# Altium schematic symbol library OT Library.SchLib: 511 symbols (part 3 of 4)
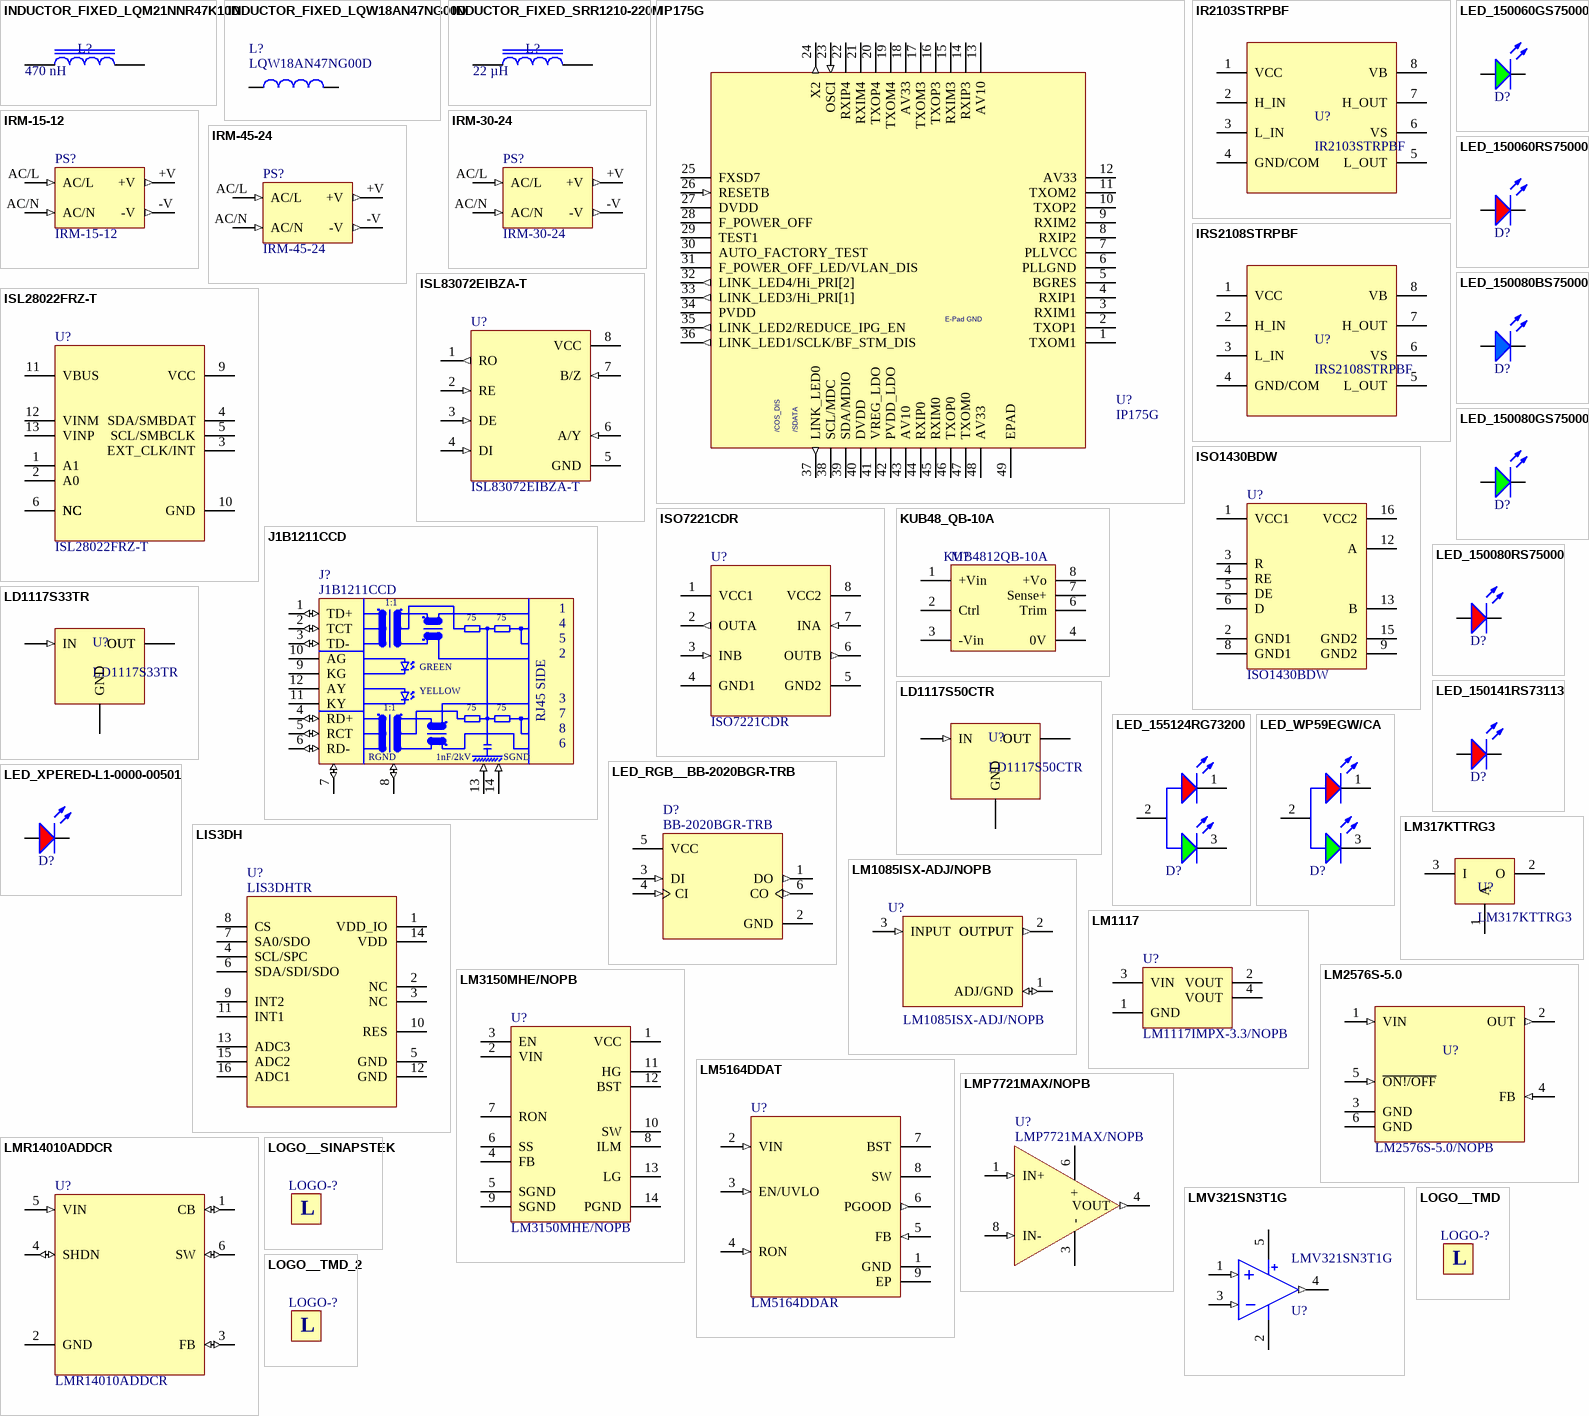
[diagram p19: symbols INDUCTOR_FIXED_LQM21NNR47K10D to LOGO__TMD_2]

## LM1117
designator U?, comment LM1117IMPX-3.3/NOPB
IC REG LIN 3.3V 800MA SOT223-4; Manufacturer: Texas Instruments; Manufacturer Part Number: LM1117IMPX-3.3/NOPB; LCSC Part: C23984
footprint SOT-223-4 (SOT223, 4-Leads, Body 6.50x7.00mm (avg), Pitch 2.30mm)
pins: 1 GND, 2 VOUT, 3 VIN, 4 VOUT

## LM2576S-5.0
designator U?, comment LM2576S-5.0/NOPB
IC REG BUCK 5V 3A TO263-5; Manufacturer: Texas Instruments; Manufacturer Part Number: LM2576S-5.0/NOPB
footprint TO-263-6 (DDPAK/TO-263-5)
pins: 1 VIN (in), 2 OUT (out), 3 GND (power), 4 FB (in), 5 ~{ON!/OFF} (in), 6 GND (power)

## LM3150MHE/NOPB
designator U?
IC REG CTRLR BUCK 14TSSOP; Manufacturer: Texas Instruments; Manufacturer Part Number: LM3150MHE/NOPB; LCSC Part: C2864227
footprint 14-HTSSOP (14-PowerTSSOP (0.173", 4.40mm Width))
pins: 1 VCC, 2 VIN, 3 EN, 4 FB, 5 SGND, 6 SS, 7 RON, 8 ILM, 9 SGND, 10 SW, 11 HG, 12 BST, 13 LG, 14 PGND

## LM5164DDAT
designator U?, comment LM5164DDAR
IC REG BUCK ADJ 1A 8SOPWR; Manufacturer: Texas Instruments; Manufacturer Part Number: LM5164DDAR; LCSC Part: C477928
footprint 8-PowerSOIC (8-SO PowerPad (0.154", 3.90mm Width))
pins: 1 GND (power), 2 VIN (in), 3 EN/UVLO (in), 4 RON (in), 5 FB (in), 6 PGOOD (out), 7 BST (power), 8 SW (power), 9 EP (power)

## LMP7721MAX/NOPB
designator U?
IC OPAMP GP 1 CIRCUIT 8SOIC; Manufacturer: Texas Instruments; Manufacturer Part Number: LMP7721MAX/NOPB; LCSC Part: C2864387
footprint SOIC-8 (0.154", 3.90mm Width)
pins: 1 IN+ (in), 3 - (power), 4 VOUT (out), 6 + (power), 8 IN- (in)

## LMR14010ADDCR
designator U?
IC REG BUCK ADJ 1A TSOT23-6; Manufacturer: Texas Instruments; Manufacturer Part Number: LMR14010ADDCR
footprint TSOT-23-6 (SOT-23-6 Thin, TSOT-23-6)
pins: 1 CB (io), 2 GND (power), 3 FB (io), 4 SHDN (io), 5 VIN (in), 6 SW (io)

## LMV321SN3T1G
designator U?
IC OPAMP GP 1 CIRCUIT 5TSOP; Manufacturer: onsemi; Manufacturer Part Number: LMV321SN3T1G; LCSC Part: C84726
footprint TSOT-23-5 (SOT-23-5 Thin, TSOT-23-5)
pins: 1 IN+ (in), 2 (power), 3 IN- (in), 4 OUT (out), 5 V+ (power)

## LOGO__SINAPSTEK
designator LOGO-?, comment Logo  (value not drawn)  (no BOM)
Value: Logo
footprint Logo-Sinapstek
footprint Logo-Sinapstek_BOTTOM_LAYER
text: L

## LOGO__TMD
designator LOGO-?, comment Logo  (value not drawn)  (no BOM)
Value: Logo
footprint Logo-TMD
text: L

## LOGO__TMD_2
designator LOGO-?, comment Logo  (value not drawn)  (no BOM)
Value: Logo
footprint Logo-TMD2
text: L

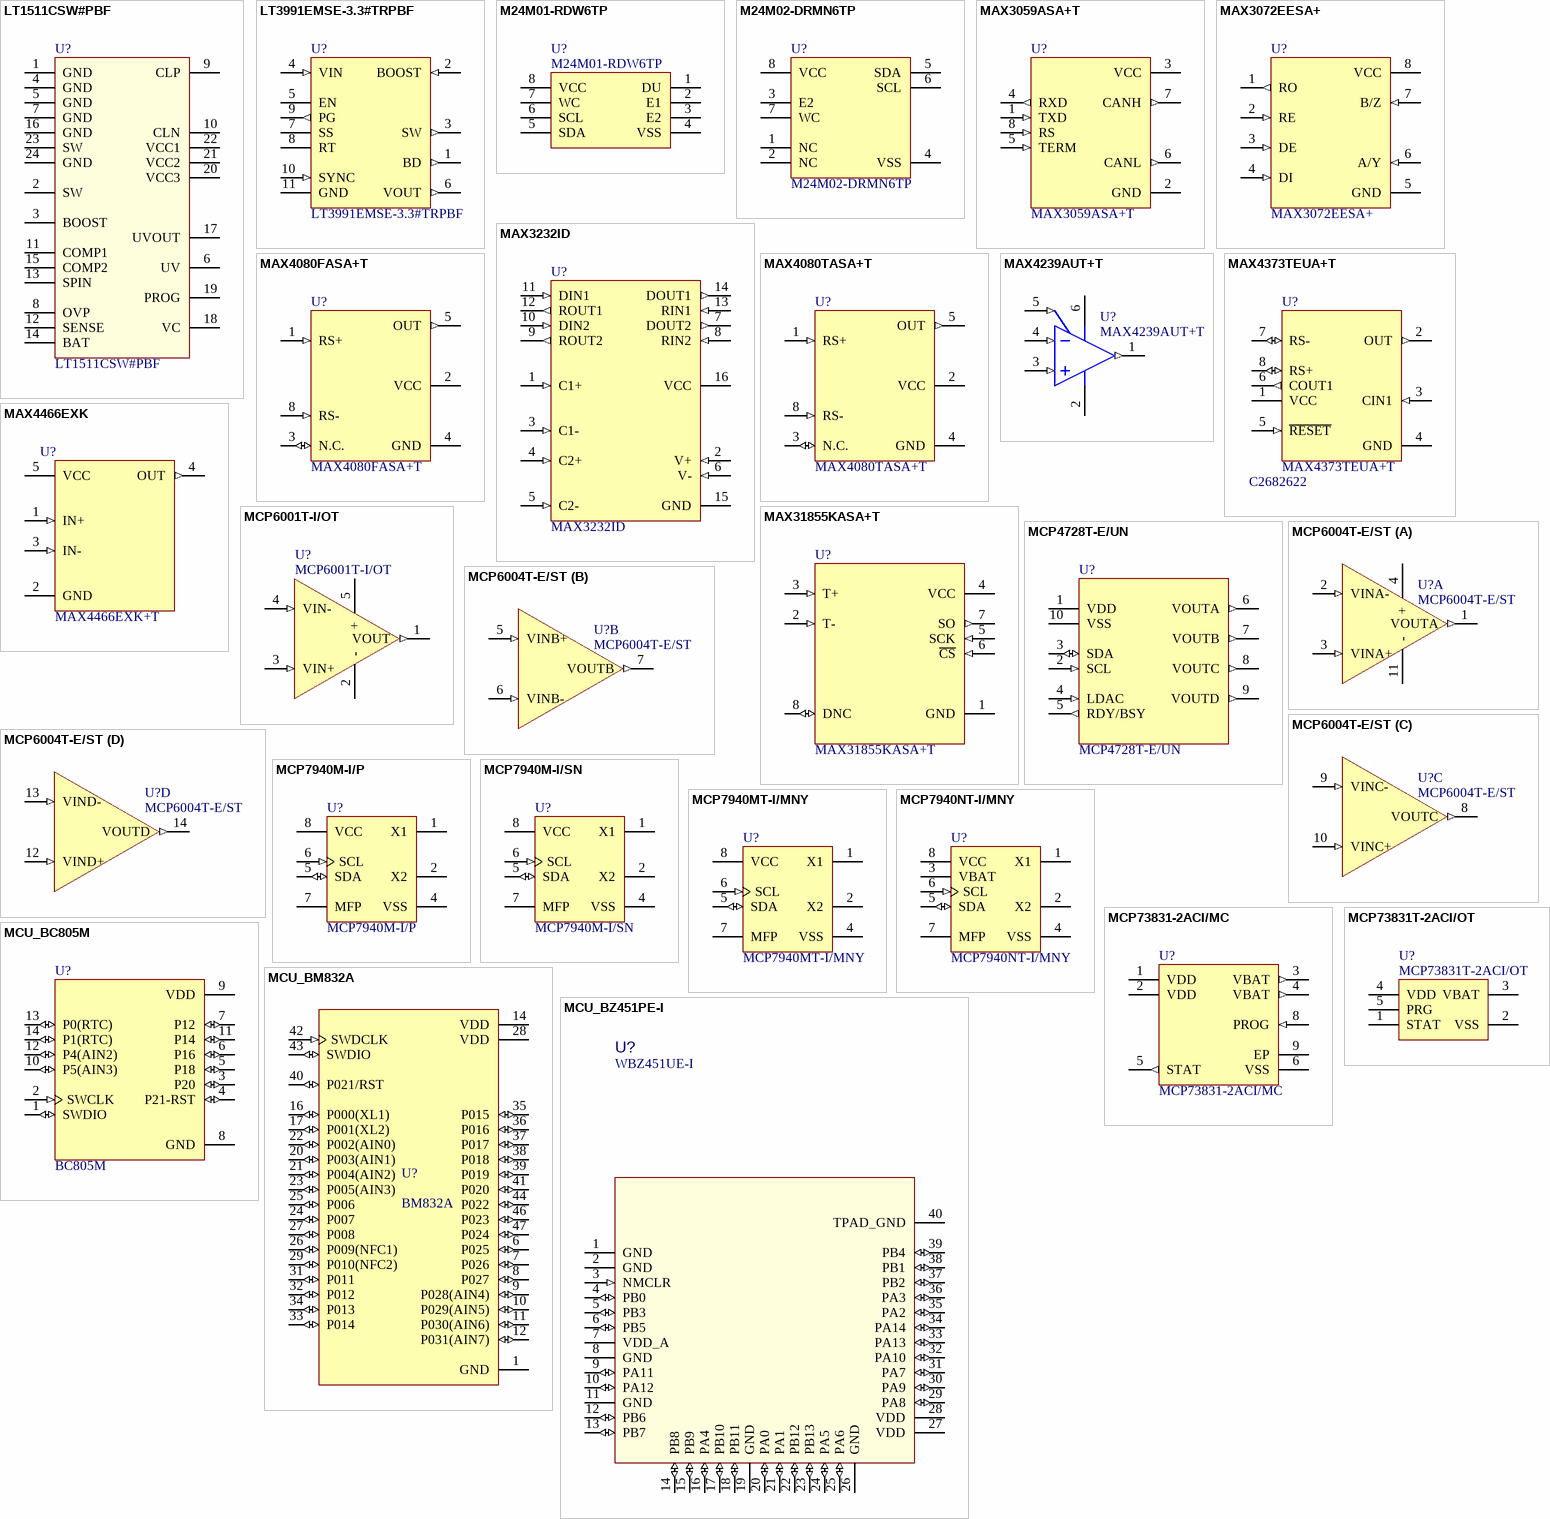
[diagram p8: symbols LT1511CSW#PBF to MCU_BZ451PE-I]

## LT1511CSW#PBF
designator U?
IC BATT CHG MULTI-CHEM 24SOIC; Manufacturer: Analog Devices Inc.; Manufacturer Part Number: LT1511CSW#PBF
footprint 24-SOIC (24-SOIC (0.295", 7.50mm Width))
pins: 1 GND, 2 SW, 3 BOOST, 4 GND, 5 GND, 6 UV, 7 GND, 8 OVP, 9 CLP, 10 CLN, 11 COMP1, 12 SENSE, 13 SPIN, 14 BAT, 15 COMP2, 16 GND, 17 UVOUT, 18 VC, 19 PROG, 20 VCC3, 21 VCC2, 22 VCC1, 23 SW, 24 GND

## LT3991EMSE-3.3#TRPBF
designator U?
IC REG BUCK 3.3V 1.2A 10MSOP; Manufacturer: Analog Devices Inc.; Manufacturer Part Number: LT3991EMSE-3.3#TRPBF; Datasheet: https://www.analog.com/media/en/technical-documentation/data-sheets/3991fa.pdf
footprint MSOP-10-EP (10-TFSOP, 10-MSOP (0.118", 3.00mm Width) Exposed Pad)
pins: 1 BD (out), 2 BOOST (in), 3 SW (out), 4 VIN (in), 5 EN, 6 VOUT (out), 7 SS, 8 RT, 9 PG (out), 10 SYNC (in), 11 GND

## M24M01-RDW6TP
designator U?
IC EEPROM 1MBIT I2C 1MHZ 8TSSOP; Manufacturer: STMicroelectronics; LCSC Part: C283500; Manufacturer Part Number: M24M01-RDW6TP; ComponentLink1URL: https://datasheet.ciiva.com/15123/getdatasheetpartid-572481-15123825.pdf?src-supplier=Verical; ComponentLink1Description: https://datasheet.ciiva.com/15123/getdatasheetpartid-572481-15123825.pdf?src-supplier=Verical; ComponentLink2URL: https://datasheet.ciiva.com/29611/cd00147128-29611846.pdf?src-supplier=Digikey; ComponentLink2Description: https://datasheet.ciiva.com/29611/cd00147128-29611846.pdf?src-supplier=Digikey
footprint 8-TSSOP_4.40MM (8-TSSOP (0.173", 4.40mm Width))
pins: 1 DU, 2 E1, 3 E2, 4 VSS, 5 SDA, 6 SCL, 7 WC, 8 VCC

## M24M02-DRMN6TP
designator U?
IC EEPROM 2MBIT I2C 1MHZ 8SOIC; Manufacturer: STMicroelectronics; Manufacturer Part Number: M24M02-DRMN6TP; LCSC Part: C115042
footprint SOIC-8 (0.154", 3.90mm Width)
pins: 1 NC, 2 NC, 3 E2, 4 VSS, 5 SDA, 6 SCL, 7 WC, 8 VCC

## MAX3059ASA+T
designator U?
1/1 Transceiver Full CANbus 8-SOIC; Manufacturer: Maxim Integrated; Manufacturer Part Number: MAX3059ASA+T; Datasheet: https://www.analog.com/media/en/technical-documentation/data-sheets/MAX3058-MAX3059.pdf
footprint SOIC-8 (0.154", 3.90mm Width)
pins: 1 TXD (in), 2 GND (power), 3 VCC (power), 4 RXD (out), 5 TERM (in), 6 CANL (out), 7 CANH (out), 8 RS (in)

## MAX3072EESA+
designator U?
IC TRANSCEIVER HALF 1/1 8SOIC; Manufacturer: Analog Devices Inc./Maxim Integrated; Manufacturer Part Number: MAX3072EESA+; Datasheet: https://datasheets.maximintegrated.com/en/ds/MAX3070E-MAX3079E.pdf; LCSC Part: C113252
footprint SOIC-8 (0.154", 3.90mm Width)
pins: 1 RO (out), 2 RE (in), 3 DE (in), 4 DI (in), 5 GND (power), 6 A/Y (in), 7 B/Z (in), 8 VCC (power)

## MAX3232ID
designator U?
IC TRANSCEIVER FULL 2/2 16SOIC; Manufacturer: Texas Instruments; Manufacturer Part Number: MAX3232ID; LCSC Part: C354119
footprint SOIC-16 ((0.295", 7.50mm Width))
pins: 1 C1+ (in), 2 V+ (in), 3 C1- (in), 4 C2+ (in), 5 C2- (in), 6 V- (in), 7 DOUT2 (out), 8 RIN2 (in), 9 ROUT2 (out), 10 DIN2 (in), 11 DIN1 (in), 12 ROUT1 (out), 13 RIN1 (in), 14 DOUT1 (out), 15 GND (power), 16 VCC (power)

## MAX4080FASA+T
designator U?
IC CURRENT SENSE 1 CIRCUIT 8SOIC; Manufacturer: Analog Devices Inc./Maxim Integrated; Manufacturer Part Number: MAX4080FASA+T
footprint SOIC-8 (0.154", 3.90mm Width)
pins: 1 RS+ (in), 2 VCC (power), 3 N.C. (io), 4 GND (power), 5 OUT (out), 6 N.C. (io) hidden to 3, 7 N.C. (io) hidden to 3, 8 RS- (in)

## MAX4080TASA+T
designator U?
IC CURRENT SENSE 1 CIRCUIT 8SOIC; Manufacturer: Analog Devices Inc./Maxim Integrated; Manufacturer Part Number: MAX4080TASA+T
footprint SOIC-8 (0.154", 3.90mm Width)
pins: 1 RS+ (in), 2 VCC (power), 3 N.C. (io), 4 GND (power), 5 OUT (out), 6 N.C. (io) hidden to 3, 7 N.C. (io) hidden to 3, 8 RS- (in)

## MAX4239AUT+T
designator U?
IC OPAMP GP 1 CIRCUIT SOT6; Manufacturer: Analog Devices Inc./Maxim Integrated; Manufacturer Part Number: MAX4239AUT+T; LCSC Part: C479740
footprint SOT-23-6
pins: 1 VOUT (out), 2 VSS (power), 3 VIN+ (in), 4 VIN- (in), 5 ~{CS} (in), 6 VDD (power)

## MAX4373TEUA+T
designator U?  LCSC Part: C2682622
IC AMP COMP REF 8UMAX; Manufacturer: Analog Devices Inc./Maxim Integrated; Manufacturer Part Number: MAX4373TEUA+T
footprint 8-TSSOP_3.00MM (8-MSOP (0.118", 3.00mm Width))
pins: 1 VCC (power), 2 OUT (out), 3 CIN1 (in), 4 GND (power), 5 ~{RESET} (in), 6 COUT1 (out), 7 RS- (io), 8 RS+ (io)

## MAX4466EXK
designator U?, comment MAX4466EXK+T
IC AMP CLASS AB MONO SC70-5; Manufacturer: Analog Devices; Manufacturer Part Number: MAX4466EXK+T; LCSC Part: C7456762
footprint SC-70-5
pins: 1 IN+ (in), 2 GND (power), 3 IN- (in), 4 OUT (out), 5 VCC (power)

## MAX31855KASA+T
designator U?
IC CONV THERMOCOUPLE-DGTL SOIC; Manufacturer: Analog Devices Inc./Maxim Integrated; Manufacturer Part Number: MAX31855KASA+T; LCSC Part: C52028
footprint SOIC-8 (0.154", 3.90mm Width)
pins: 1 GND (power), 2 T- (in), 3 T+ (in), 4 VCC (power), 5 SCK (in), 6 ~{CS} (in), 7 SO (out), 8 DNC (io)

## MCP4728T-E/UN
designator U?
IC DAC 12BIT V-OUT 10MSOP; Manufacturer: Microchip; Manufacturer Part Number: MCP4728T-E/UN; LCSC Part: C478093
footprint 10-MSOP (10-TFSOP, 10-MSOP (0.118", 3.00mm Width))
pins: 1 VDD (power), 2 SCL (in), 3 SDA (io), 4 LDAC (in), 5 RDY/BSY (out), 6 VOUTA (out), 7 VOUTB (out), 8 VOUTC (out), 9 VOUTD (out), 10 VSS (power)

## MCP6001T-I/OT
designator U?
IC OPAMP GP 1 CIRCUIT SOT23-5; Manufacturer: Microchip Technology; Manufacturer Part Number: MCP6001T-I/OT; LCSC Part: C116490
footprint SOT-23-5 (SC-74A, SOT-753)
pins: 1 VOUT (out), 2 - (power), 3 VIN+ (in), 4 VIN- (in), 5 + (power)

## MCP6004T-E/ST
designator U?
IC OPAMP GP 4 CIRCUIT 14TSSOP; Manufacturer: Microchip; Manufacturer Part Number: MCP6004T-E/ST
footprint 14-TSSOP (14-TSSOP (0.173", 4.40mm Width))
part A pins: 1 VOUTA (out), 2 VINA- (in), 3 VINA+ (in), 4 + (power), 11 -
part B pins: 5 VINB+ (in), 6 VINB- (in), 7 VOUTB (out)
part C pins: 8 VOUTC (out), 9 VINC- (in), 10 VINC+ (in)
part D pins: 12 VIND+ (in), 13 VIND- (in), 14 VOUTD (out)

## MCP7940M-I/P
designator U?
IC RTC CLOCK/CALENDAR I2C 8DIP; Manufacturer: Microchip Technology; Manufacturer Part Number: MCP7940M-I/P
footprint 8-DIP (8-DIP (0.300", 7.62mm))
pins: 1 X1, 2 X2, 3 NC hidden, 4 VSS (power), 5 SDA (io), 6 SCL (in), 7 MFP, 8 VCC (power)

## MCP7940M-I/SN
designator U?
IC RTC CLK/CALENDAR I2C 8SOIC; Manufacturer: Microchip Technology; Manufacturer Part Number: MCP7940M-I/SN
footprint SOIC-8 (0.154", 3.90mm Width)
pins: 1 X1, 2 X2, 3 NC hidden, 4 VSS (power), 5 SDA (io), 6 SCL (in), 7 MFP, 8 VCC (power)

## MCP7940MT-I/MNY
designator U?
IC RTC CLK/CALENDAR I2C 8TDFN; Manufacturer: Microchip Technology; Manufacturer Part Number: MCP7940MT-I/MNY
footprint 8-WFDFN (2x3) Exposed Pad
pins: 1 X1, 2 X2, 3 NC hidden, 4 VSS (power), 5 SDA (io), 6 SCL (in), 7 MFP, 8 VCC (power)

## MCP7940NT-I/MNY
designator U?
IC RTC CLK/CALENDAR I2C 8TDFN; Manufacturer: Microchip Technology; Manufacturer Part Number: MCP7940NT-I/MNY
footprint 8-WFDFN (2x3) Exposed Pad
pins: 1 X1, 2 X2, 3 VBAT, 4 VSS (power), 5 SDA (io), 6 SCL (in), 7 MFP, 8 VCC (power)

## MCP73831-2ACI/MC
designator U?
IC BATT CONTRL LI-ION 1CELL 8DFN; Manufacturer: Microchip; Manufacturer Part Number: MCP73831-2ACI/MC; LCSC Part: C150772
footprint 8-VFDFN Exposed Pad (8-DFN (2x3))
pins: 1 VDD (power), 2 VDD (power), 3 VBAT (out), 4 VBAT (out), 5 STAT (out), 6 VSS (power), 8 PROG (in), 9 EP (power)

## MCP73831T-2ACI/OT
designator U?
IC BATT CNTL LI-ION 1CEL SOT23-5; Manufacturer: Microchip; Manufacturer Part Number: MCP73831T-2ACI/OT; LCSC Part: C424093
footprint SOT-23-5 (SC-74A, SOT-753)
pins: 1 STAT, 2 VSS, 3 VBAT, 4 VDD, 5 PRG

## MCU_BC805M
designator U?, comment BC805M
RF TXRX MODULE BT PCB TRACE SMD; Manufacturer: Fanstel Corp.; Manufacturer Prart Number: BC805M
footprint XCVR_BC805M
pins: 1 SWDIO (io), 2 SWCLK (in), 3 P20 (io), 4 P21-RST (io), 5 P18 (io), 6 P16 (io), 7 P12 (io), 8 GND (power), 9 VDD (power), 10 P5(AIN3) (io), 11 P14 (io), 12 P4(AIN2) (io), 13 P0(RTC) (io), 14 P1(RTC) (io)

## MCU_BM832A
designator U?, comment BM832A
RF TXRX MODULE BT PCB TRACE SMD; Manufacturer: Fanstel; Manufacturer Part Number: BM832A
footprint XCVR_BM832A
pins: 1 GND (power), 2 GND (power), 3 GND (power), 4 GND (power), 5 GND (power), 6 P025 (io), 7 P026 (io), 8 P027 (io), 9 P028(AIN4) (io), 10 P029(AIN5) (io), 11 P030(AIN6) (io), 12 P031(AIN7) (io), 13 GND (power), 14 VDD (power), 15 GND (power), 16 P000(XL1) (io), 17 P001(XL2) (io), 18 GND (power), 19 GND (power), 20 P003(AIN1) (io), 21 P004(AIN2) (io), 22 P002(AIN0) (io), 23 P005(AIN3) (io), 24 P007 (io), 25 P006 (io), 26 P009(NFC1) (io), 27 P008 (io), 28 VDD (power), 29 P010(NFC2) (io), 30 GND (power), 31 P011 (io), 32 P012 (io), 33 P014 (io), 34 P013 (io), 35 P015 (io), 36 P016 (io), 37 P017 (io), 38 P018 (io), 39 P019 (io), 40 P021/RST (io), 41 P020 (io), 42 SWDCLK (in), 43 SWDIO (io), 44 P022 (io), 45 GND (power), 46 P023 (io), 47 P024 (io)

## MCU_BZ451PE-I
designator U?, comment WBZ451UE-I
RF TXRX MODULE BT U.FL SMD; Manufacturer: Microchip Technology; Revision: 2; Manufacturer Part Number: WBZ451UE-I; LCSC Part: C6000625
footprint MOD_WBZ451PE-I
pins: 1 GND (power), 2 GND (power), 3 NMCLR (in), 4 PB0 (io), 5 PB3 (io), 6 PB5 (io), 7 VDD_A (power), 8 GND (power), 9 PA11 (io), 10 PA12 (io), 11 GND (power), 12 PB6 (io), 13 PB7 (io), 14 PB8 (io), 15 PB9 (io), 16 PA4 (io), 17 PB10 (io), 18 PB11 (io), 19 GND (power), 20 PA0 (io), 21 PA1 (io), 22 PB12 (io), 23 PB13 (io), 24 PA5 (io), 25 PA6 (io), 26 GND (power), 27 VDD (power), 28 VDD (power), 29 PA8 (io), 30 PA9 (io), 31 PA7 (io), 32 PA10 (io), 33 PA13 (io), 34 PA14 (io), 35 PA2 (io), 36 PA3 (io), 37 PB2 (io), 38 PB1 (io), 39 PB4 (io), 40 TPAD_GND

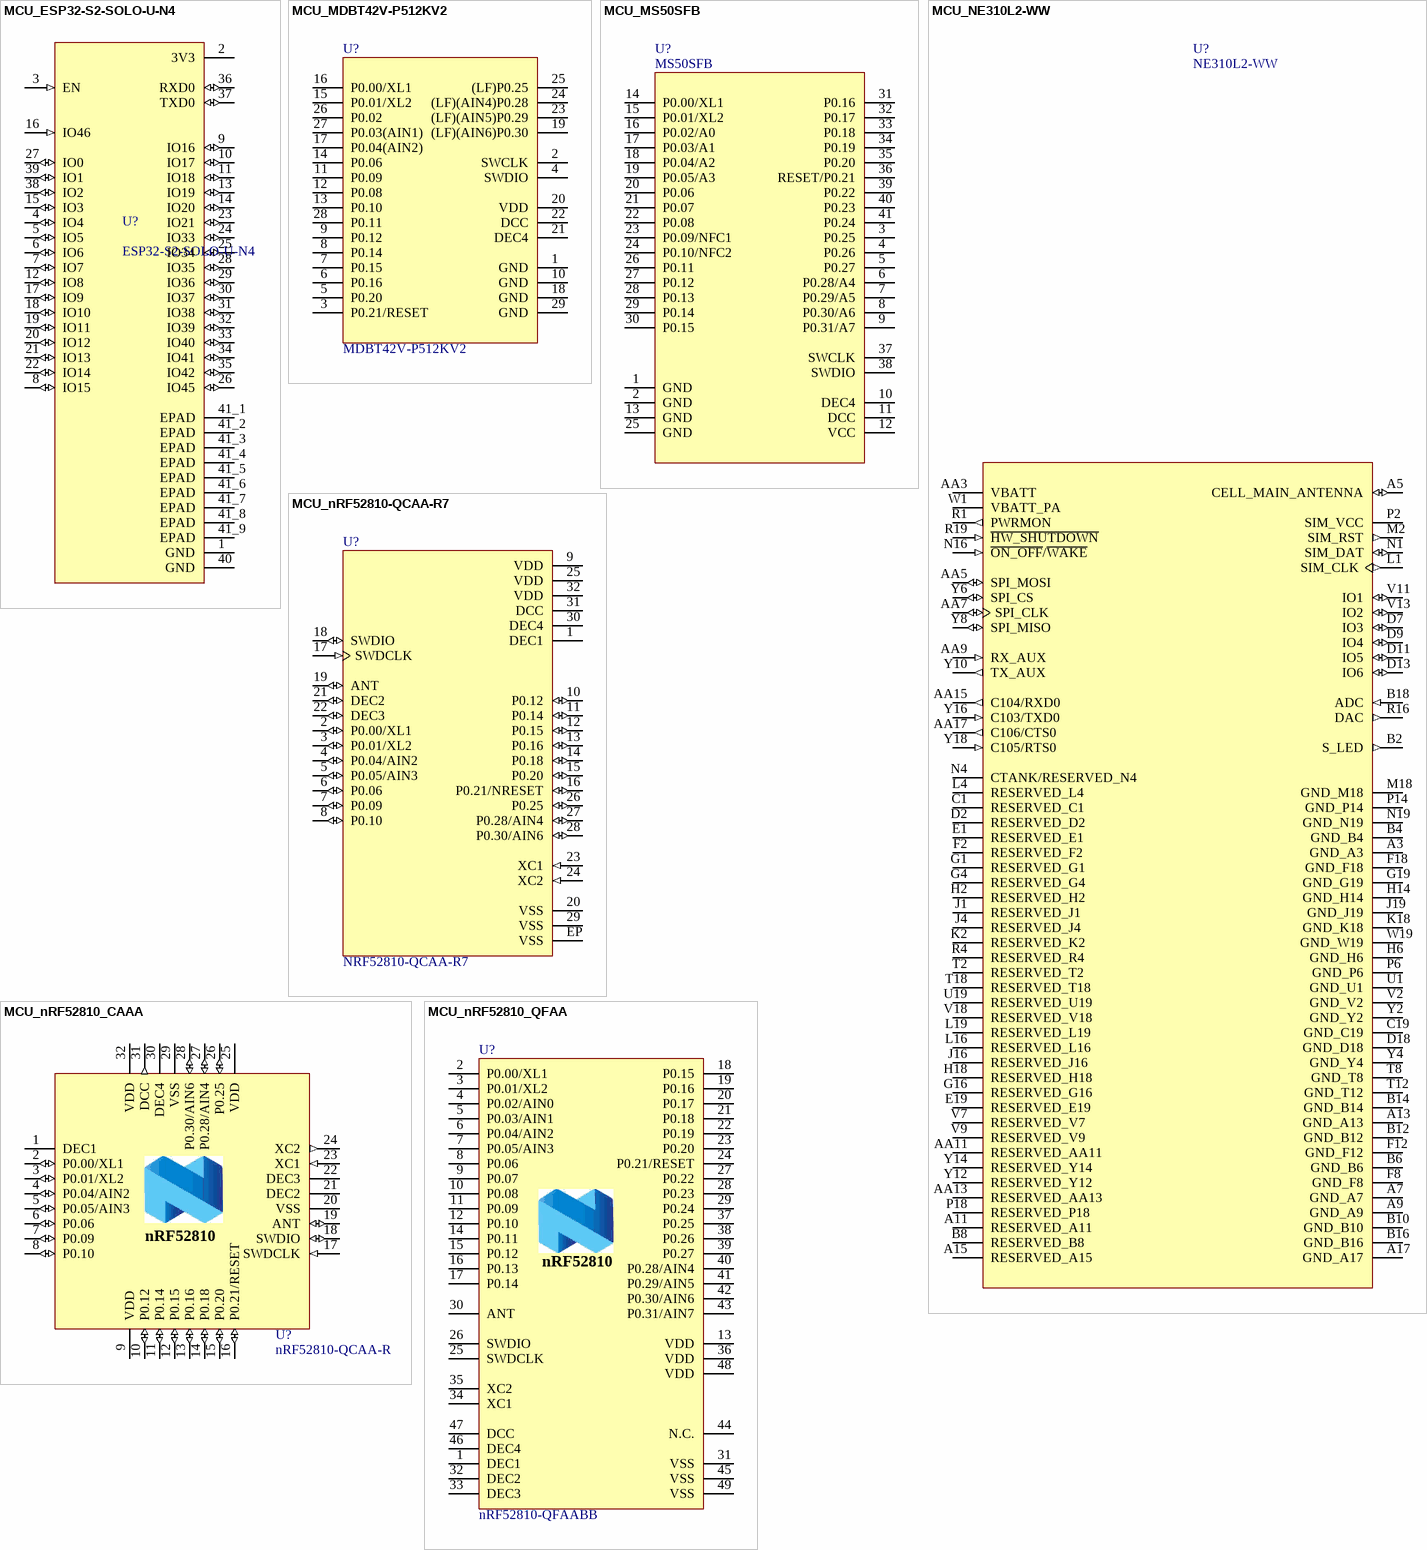
[diagram p9: symbols MCU_ESP32-S2-SOLO-U-N4 to MCU_nRF52810_QFAA]

## MCU_ESP32-S2-SOLO-U-N4
designator U?, comment ESP32-S2-SOLO-U-N4
SMD MODULE, ESP32-S2, 4 MB SPI F; Manufacturer: Espressif Systems; Datasheet: https://www.espressif.com/sites/default/files/documentation/esp32-s2-solo-2_esp32-s2-solo-2u_datasheet_en.pdf; Manufacturer Part Number: ESP32-S2-SOLO-U-N4
footprint MCU_ESP32-S2-SOLO-U-N4 (Footprint not found)
pins: 1 GND (power), 2 3V3 (power), 3 EN (in), 4 IO4 (io), 5 IO5 (io), 6 IO6 (io), 7 IO7 (io), 8 IO15 (io), 9 IO16 (io), 10 IO17 (io), 11 IO18 (io), 12 IO8 (io), 13 IO19 (io), 14 IO20 (io), 15 IO3 (io), 16 IO46 (in), 17 IO9 (io), 18 IO10 (io), 19 IO11 (io), 20 IO12 (io), 21 IO13 (io), 22 IO14 (io), 23 IO21 (io), 24 IO33 (io), 25 IO34 (io), 26 IO45 (io), 27 IO0 (io), 28 IO35 (io), 29 IO36 (io), 30 IO37 (io), 31 IO38 (io), 32 IO39 (io), 33 IO40 (io), 34 IO41 (io), 35 IO42 (io), 36 RXD0 (io), 37 TXD0 (io), 38 IO2 (io), 39 IO1 (io), 40 GND (power), 41_1 EPAD (power), 41_2 EPAD (power), 41_3 EPAD (power), 41_4 EPAD (power), 41_5 EPAD (power), 41_6 EPAD (power), 41_7 EPAD (power), 41_8 EPAD (power), 41_9 EPAD (power)

## MCU_MDBT42V-P512KV2
designator U?, comment MDBT42V-P512KV2
RF TXRX MOD BT PCB TH SMD; Manufacturer: RAYTEC; Manufacturer Part Number: MDBT42V-P512KV2; LCSC Part: C5299725
footprint MDBT42V (Footprint not found)
pins: 1 GND, 2 SWCLK, 3 P0.21/RESET, 4 SWDIO, 5 P0.20, 6 P0.16, 7 P0.15, 8 P0.14, 9 P0.12, 10 GND, 11 P0.09, 12 P0.08, 13 P0.10, 14 P0.06, 15 P0.01/XL2, 16 P0.00/XL1, 17 P0.04(AIN2), 18 GND, 19 (LF)(AIN6)P0.30, 20 VDD, 21 DEC4, 22 DCC, 23 (LF)(AIN5)P0.29, 24 (LF)(AIN4)P0.28, 25 (LF)P0.25, 26 P0.02, 27 P0.03(AIN1), 28 P0.11, 29 GND

## MCU_MS50SFB
designator U?, comment MS50SFB
Bluetooth 5.0 module; Manufacturer: MINEV; Manufacturer Part Number: MS50SFB
footprint MS50SFB (Respect stay away lines if not model 3)
pins: 1 GND, 2 GND, 3 P0.25, 4 P0.26, 5 P0.27, 6 P0.28/A4, 7 P0.29/A5, 8 P0.30/A6, 9 P0.31/A7, 10 DEC4, 11 DCC, 12 VCC, 13 GND, 14 P0.00/XL1, 15 P0.01/XL2, 16 P0.02/A0, 17 P0.03/A1, 18 P0.04/A2, 19 P0.05/A3, 20 P0.06, 21 P0.07, 22 P0.08, 23 P0.09/NFC1, 24 P0.10/NFC2, 25 GND, 26 P0.11, 27 P0.12, 28 P0.13, 29 P0.14, 30 P0.15, 31 P0.16, 32 P0.17, 33 P0.18, 34 P0.19, 35 P0.20, 36 RESET/P0.21, 37 SWCLK, 38 SWDIO, 39 P0.22, 40 P0.23, 41 P0.24

## MCU_NE310L2-WW
designator U?, comment NE310L2-WW
NB-IoT 2G module Global variant; Manufacturer: Telit; Manufacturer Part Number: NE310L2-WW
footprint XCVR_NE310L2-WW
pins: A3 GND_A3 (power), A5 CELL_MAIN_ANTENNA (io), A7 GND_A7 (power), A9 GND_A9 (power), A11 RESERVED_A11, A13 GND_A13 (power), A15 RESERVED_A15, A17 GND_A17 (power), AA3 VBATT (power), AA5 SPI_MOSI (io), AA7 SPI_CLK (io), AA9 RX_AUX (in), AA11 RESERVED_AA11, AA13 RESERVED_AA13, AA15 C104/RXD0 (out), AA17 C106/CTS0 (out), B2 S_LED (out), B4 GND_B4 (power), B6 GND_B6 (power), B8 RESERVED_B8, B10 GND_B10 (power), B12 GND_B12 (power), B14 GND_B14 (power), B16 GND_B16 (power), B18 ADC (in), C1 RESERVED_C1, C19 GND_C19 (power), D2 RESERVED_D2, D7 IO3 (io), D9 IO4 (io), D11 IO5 (io), D13 IO6 (io), D18 GND_D18 (power), E1 RESERVED_E1, E19 RESERVED_E19, F2 RESERVED_F2, F8 GND_F8 (power), F12 GND_F12 (power), F18 GND_F18 (power), G1 RESERVED_G1, G4 RESERVED_G4, G16 RESERVED_G16, G19 GND_G19 (power), H2 RESERVED_H2, H6 GND_H6 (power), H14 GND_H14 (power), H18 RESERVED_H18, J1 RESERVED_J1, J4 RESERVED_J4, J16 RESERVED_J16, J19 GND_J19 (power), K2 RESERVED_K2, K18 GND_K18 (power), L1 SIM_CLK (out), L4 RESERVED_L4, L16 RESERVED_L16, L19 RESERVED_L19, M2 SIM_RST (out), M18 GND_M18 (power), N1 SIM_DAT (io), N4 CTANK/RESERVED_N4, N16 ~{ON_OFF}/~{WAKE} (in), N19 GND_N19 (power), P2 SIM_VCC (power), P6 GND_P6 (power), P14 GND_P14 (power), P18 RESERVED_P18, R1 PWRMON (out), R4 RESERVED_R4, R16 DAC (out), R19 ~{HW_SHUTDOWN} (in), T2 RESERVED_T2, T8 GND_T8 (power), T12 GND_T12 (power), T18 RESERVED_T18, U1 GND_U1 (power), U19 RESERVED_U19, V2 GND_V2 (power), V7 RESERVED_V7, V9 RESERVED_V9, V11 IO1 (io), V13 IO2 (io), V18 RESERVED_V18, W1 VBATT_PA (power), W19 GND_W19 (power), Y2 GND_Y2 (power), Y4 GND_Y4 (power), Y6 SPI_CS (io), Y8 SPI_MISO (io), Y10 TX_AUX (out), Y12 RESERVED_Y12, Y14 RESERVED_Y14, Y16 C103/TXD0 (in), Y18 C105/RTS0 (in)

## MCU_nRF52810-QCAA-R7
designator U?, comment NRF52810-QCAA-R7
IC RF TXRX+MCU BLUETOOTH 32WFQFN; Manufacturer: Nordic Semiconductor ASA; Manufacturer Part Number: NRF52810-QCAA-R7; LCSC Part: C519278
footprint 32-QFN (5x5) (32-VFQFN Exposed Pad)
pins: 1 DEC1 (power), 2 P0.00/XL1 (io), 3 P0.01/XL2 (io), 4 P0.04/AIN2 (io), 5 P0.05/AIN3 (io), 6 P0.06 (io), 7 P0.09 (io), 8 P0.10 (io), 9 VDD (power), 10 P0.12 (io), 11 P0.14 (io), 12 P0.15 (io), 13 P0.16 (io), 14 P0.18 (io), 15 P0.20 (io), 16 P0.21/NRESET (io), 17 SWDCLK (in), 18 SWDIO (io), 19 ANT (io), 20 VSS (power), 21 DEC2 (io), 22 DEC3 (io), 23 XC1 (in), 24 XC2 (in), 25 VDD (power), 26 P0.25 (io), 27 P0.28/AIN4 (io), 28 P0.30/AIN6 (io), 29 VSS (power), 30 DEC4 (power), 31 DCC (power), 32 VDD (power), EP VSS (power)

## MCU_nRF52810_CAAA
designator U?, comment nRF52810-QCAA-R
IC RF TXRX+MCU BLUETOOTH 32WFQFN; Manufacturer: Nordic Semiconductor; LCSC Part: C519278; Manufacturer Part Number: nRF52810-QCAA-R
footprint 32-VFQFN Exposed Pad (32-HVQFN (5x5))
pins: 1 DEC1 (power), 2 P0.00/XL1 (io), 3 P0.01/XL2 (io), 4 P0.04/AIN2 (io), 5 P0.05/AIN3 (io), 6 P0.06 (io), 7 P0.09 (io), 8 P0.10 (io), 9 VDD (power), 10 P0.12 (io), 11 P0.14 (io), 12 P0.15 (io), 13 P0.16 (io), 14 P0.18 (io), 15 P0.20 (io), 16 P0.21/RESET (io), 17 SWDCLK (in), 18 SWDIO (io), 19 ANT (io), 20 VSS (power), 21 DEC2 (power), 22 DEC3 (power), 23 XC1 (in), 24 XC2 (out), 25 VDD (power), 26 P0.25 (io), 27 P0.28/AIN4 (io), 28 P0.30/AIN6 (io), 29 VSS (power), 30 DEC4 (power), 31 DCC (out), 32 VDD (power)
text: nRF52810

## MCU_nRF52810_QFAA
designator U?, comment nRF52810-QFAABB
IC RF TXRX+MCU BLUETOOTH 48VFQFN; Manufacturer: Nordic Semiconductor; Manufacturer Part Number: nRF52810-QFAABB; LCSC Part: C141828
footprint 48-QFN-EPAD (QFN 48-Leads, Body 6x6mm, Pitch 0.40mm)
pins: 1 DEC1, 2 P0.00/XL1, 3 P0.01/XL2, 4 P0.02/AIN0, 5 P0.03/AIN1, 6 P0.04/AIN2, 7 P0.05/AIN3, 8 P0.06, 9 P0.07, 10 P0.08, 11 P0.09, 12 P0.10, 13 VDD, 14 P0.11, 15 P0.12, 16 P0.13, 17 P0.14, 18 P0.15, 19 P0.16, 20 P0.17, 21 P0.18, 22 P0.19, 23 P0.20, 24 P0.21/RESET, 25 SWDCLK, 26 SWDIO, 27 P0.22, 28 P0.23, 29 P0.24, 30 ANT, 31 VSS, 32 DEC2, 33 DEC3, 34 XC1, 35 XC2, 36 VDD, 37 P0.25, 38 P0.26, 39 P0.27, 40 P0.28/AIN4, 41 P0.29/AIN5, 42 P0.30/AIN6, 43 P0.31/AIN7, 44 N.C., 45 VSS, 46 DEC4, 47 DCC, 48 VDD, 49 VSS
text: nRF52810

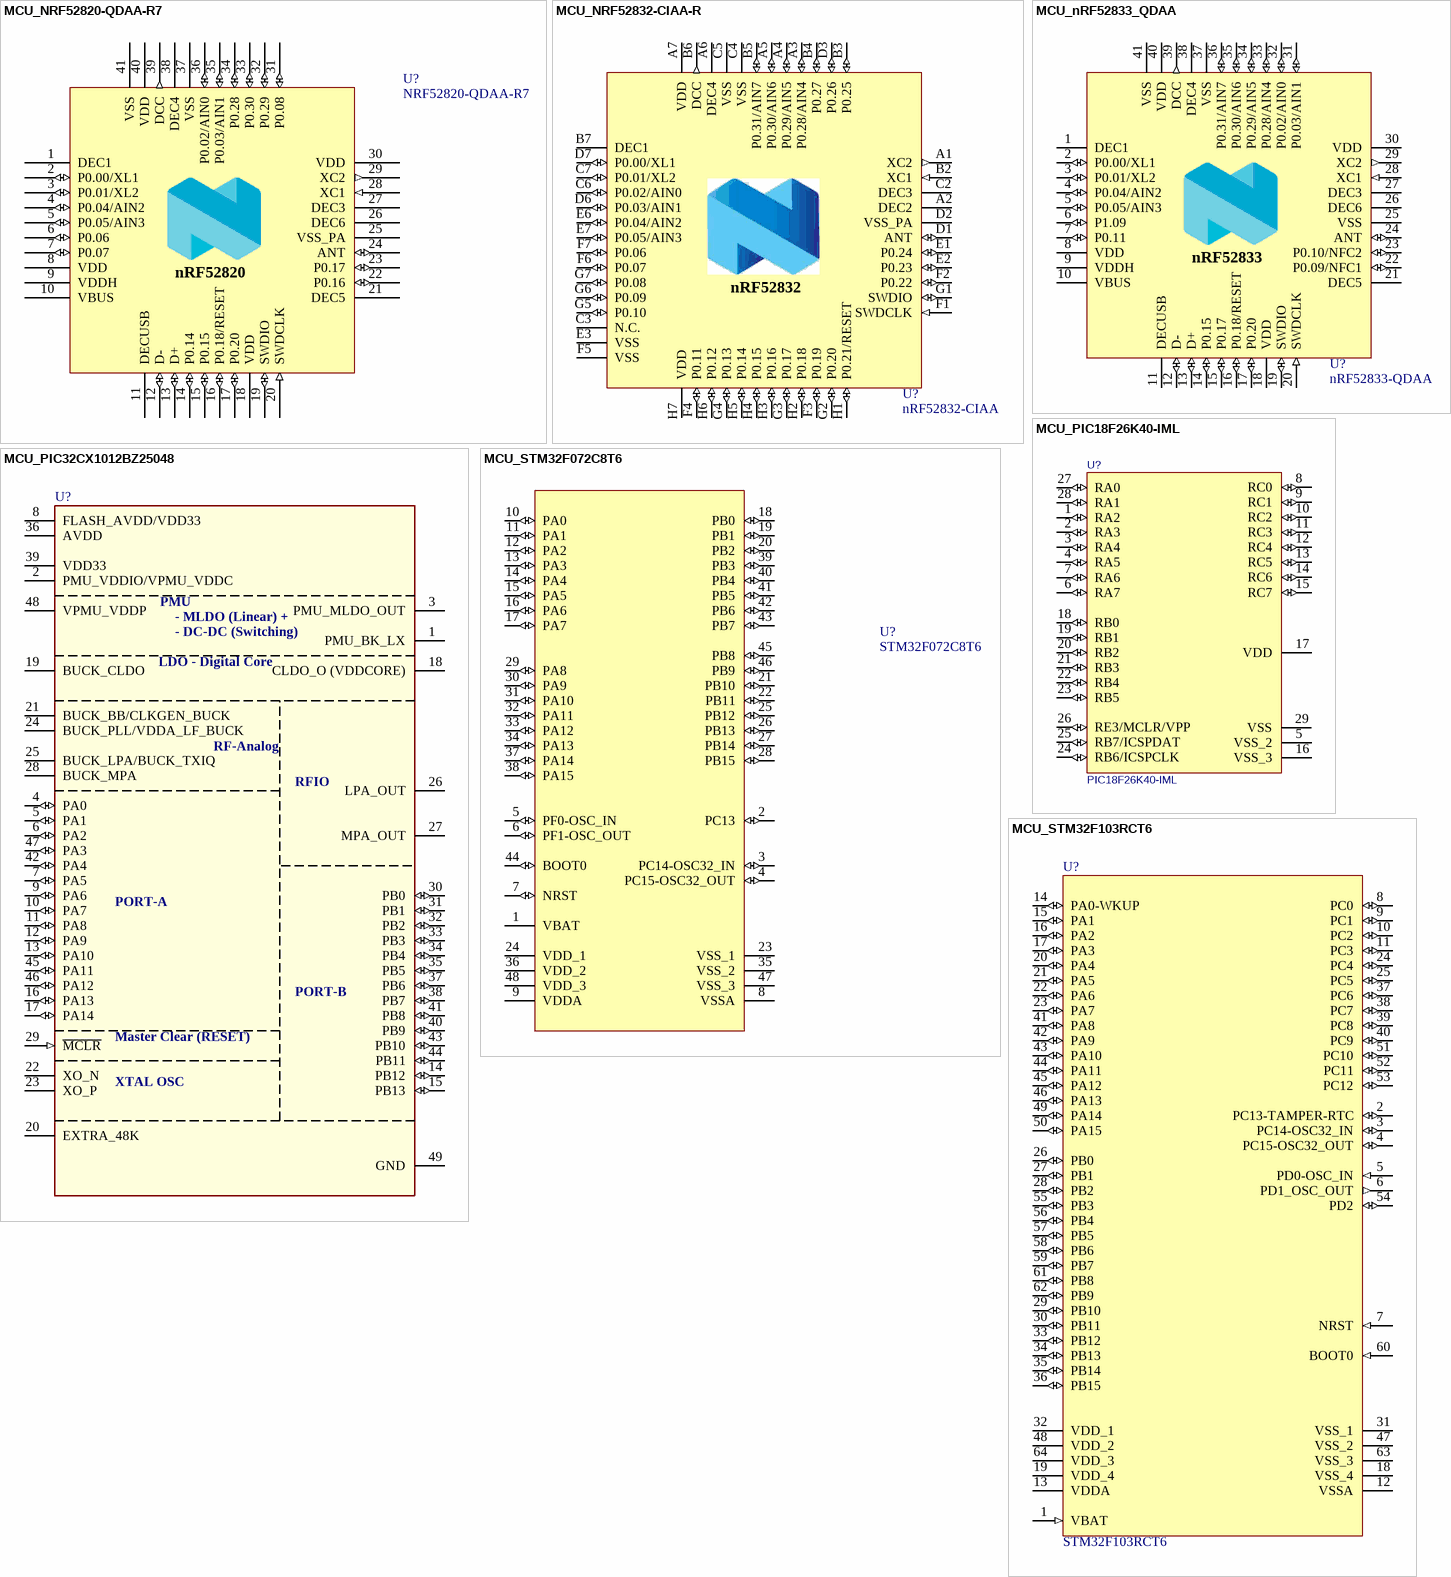
[diagram p10: symbols MCU_NRF52820-QDAA-R7 to MCU_STM32F103RCT6]

## MCU_NRF52820-QDAA-R7
designator U?, comment NRF52820-QDAA-R7
BLUETOOTH 5.3 SOC WITH BUILT-IN; Manufacturer: Nordic Semiconductor; Manufacturer Part Number: NRF52820-QDAA-R7; LCSC Part: C3015612
footprint 40-VFQFN Exposed Pad (40-QFN (5x5))
pins: 1 DEC1 (power), 2 P0.00/XL1 (io), 3 P0.01/XL2 (io), 4 P0.04/AIN2 (io), 5 P0.05/AIN3 (io), 6 P0.06 (io), 7 P0.07 (io), 8 VDD (power), 9 VDDH (power), 10 VBUS (power), 11 DECUSB (power), 12 D- (io), 13 D+ (io), 14 P0.14 (io), 15 P0.15 (io), 16 P0.18/RESET (io), 17 P0.20 (io), 18 VDD (power), 19 SWDIO (io), 20 SWDCLK (in), 21 DEC5 (power), 22 P0.16 (io), 23 P0.17 (io), 24 ANT (io), 25 VSS_PA (power), 26 DEC6 (power), 27 DEC3 (power), 28 XC1 (in), 29 XC2 (out), 30 VDD (power), 31 P0.08 (io), 32 P0.29 (io), 33 P0.30 (io), 34 P0.28 (io), 35 P0.03/AIN1 (io), 36 P0.02/AIN0 (io), 37 VSS (power), 38 DEC4 (power), 39 DCC (out), 40 VDD (power), 41 VSS (power)
text: nRF52820

## MCU_NRF52832-CIAA-R
designator U?, comment nRF52832-CIAA
IC RF TXRX+MCU ISM>1GHZ 50XFBGA; Manufacturer: Nordic Semiconductor; LCSC Part: C509405; Manufacturer Part Number: nRF52832-CIAA
footprint 50-XFBGA, WLCSP (50-WLCSP (2.96x3.23))
pins: A1 XC2 (out), A2 DEC2 (power), A3 P0.28/AIN4 (io), A4 P0.29/AIN5 (io), A5 P0.30/AIN6 (io), A6 DEC4 (power), A7 VDD (power), B2 XC1 (in), B3 P0.25 (io), B4 P0.27 (io), B5 P0.31/AIN7 (io), B6 DCC (out), B7 DEC1 (power), C2 DEC3 (power), C3 N.C. (power), C4 VSS (power), C5 VSS (power), C6 P0.02/AIN0 (io), C7 P0.01/XL2 (io), D1 ANT (io), D2 VSS_PA (power), D3 P0.26 (io), D6 P0.03/AIN1 (io), D7 P0.00/XL1 (io), E1 P0.24 (io), E2 P0.23 (io), E3 VSS (power), E6 P0.04/AIN2 (io), E7 P0.05/AIN3 (io), F1 SWDCLK (in), F2 P0.22 (io), F3 P0.19 (io), F4 P0.11 (io), F5 VSS (power), F6 P0.07 (io), F7 P0.06 (io), G1 SWDIO (io), G2 P0.20 (io), G3 P0.17 (io), G4 P0.13 (io), G5 P0.10 (io), G6 P0.09 (io), G7 P0.08 (io), H1 P0.21/RESET (io), H2 P0.18 (io), H3 P0.16 (io), H4 P0.15 (io), H5 P0.14 (io), H6 P0.12 (io), H7 VDD (power)
text: nRF52832

## MCU_nRF52833_QDAA
designator U?, comment nRF52833-QDAA
IC RF TXRX+MCU BLUETOOTH 40QFN; Manufacturer: Nordic Semiconductor; LCSC Part: C3007767; Manufacturer Part Number: nRF52833-QDAA
footprint 40-VFQFN Exposed Pad (40-QFN (5x5))
pins: 1 DEC1 (power), 2 P0.00/XL1 (io), 3 P0.01/XL2 (io), 4 P0.04/AIN2 (io), 5 P0.05/AIN3 (io), 6 P1.09 (io), 7 P0.11 (io), 8 VDD (power), 9 VDDH (power), 10 VBUS (power), 11 DECUSB (power), 12 D- (io), 13 D+ (io), 14 P0.15 (io), 15 P0.17 (io), 16 P0.18/RESET (io), 17 P0.20 (io), 18 VDD (power), 19 SWDIO (io), 20 SWDCLK (in), 21 DEC5 (power), 22 P0.09/NFC1 (io), 23 P0.10/NFC2 (io), 24 ANT (io), 25 VSS (power), 26 DEC6 (power), 27 DEC3 (power), 28 XC1 (in), 29 XC2 (out), 30 VDD (power), 31 P0.03/AIN1 (io), 32 P0.02/AIN0 (io), 33 P0.28/AIN4 (io), 34 P0.29/AIN5 (io), 35 P0.30/AIN6 (io), 36 P0.31/AIN7 (io), 37 VSS (power), 38 DEC4 (power), 39 DCC (out), 40 VDD (power), 41 VSS (power)
text: nRF52833

## MCU_PIC18F26K40-IML
designator U?, comment PIC18F26K40-IML
IC MCU 8BIT 64KB FLASH 28QFN; Manufactur: Microchip; Manufactur Part Number: PIC18F26K40-I/ML
footprint 28-VQFN (6x6) Exposed Pad
pins: 1 RA2 (io), 2 RA3 (io), 3 RA4 (io), 4 RA5 (io), 5 VSS_2 (power), 6 RA7 (io), 7 RA6 (io), 8 RC0 (io), 9 RC1 (io), 10 RC2 (io), 11 RC3 (io), 12 RC4 (io), 13 RC5 (io), 14 RC6 (io), 15 RC7 (io), 16 VSS_3 (power), 17 VDD (power), 18 RB0 (io), 19 RB1 (io), 20 RB2 (io), 21 RB3 (io), 22 RB4 (io), 23 RB5 (io), 24 RB6/ICSPCLK (io), 25 RB7/ICSPDAT (io), 26 RE3/MCLR/VPP (io), 27 RA0 (io), 28 RA1 (io), 29 VSS (power)

## MCU_PIC32CX1012BZ25048
designator U?, comment PIC32CX1012BZ25048T-I/MYX  (value not drawn)
64MHZ CM4F CORE W/ INTEGRATED BL; Manufacturer: Microchip Technology; Manufacturer Part Number: PIC32CX1012BZ25048T-I/MYX
footprint 48-VFQFN Exposed Pad (48-VQFN (7x7))
pins: 1 PMU_BK_LX (power), 2 PMU_VDDIO/VPMU_VDDC (power), 3 PMU_MLDO_OUT (power), 4 PA0 (io), 5 PA1 (io), 6 PA2 (io), 7 PA5 (io), 8 FLASH_AVDD/VDD33 (power), 9 PA6 (io), 10 PA7 (io), 11 PA8 (io), 12 PA9 (io), 13 PA10 (io), 14 PB12 (io), 15 PB13 (io), 16 PA13 (io), 17 PA14 (io), 18 CLDO_O (VDDCORE) (power), 19 BUCK_CLDO (power), 20 EXTRA_48K, 21 BUCK_BB/CLKGEN_BUCK (power), 22 XO_N, 23 XO_P, 24 BUCK_PLL/VDDA_LF_BUCK (power), 25 BUCK_LPA/BUCK_TXIQ (power), 26 LPA_OUT (power), 27 MPA_OUT (power), 28 BUCK_MPA (power), 29 ~{MCLR} (in), 30 PB0 (io), 31 PB1 (io), 32 PB2 (io), 33 PB3 (io), 34 PB4 (io), 35 PB5 (io), 36 AVDD (power), 37 PB6 (io), 38 PB7 (io), 39 VDD33 (power), 40 PB9 (io), 41 PB8 (io), 42 PA4 (io), 43 PB10 (io), 44 PB11 (io), 45 PA11 (io), 46 PA12 (io), 47 PA3 (io), 48 VPMU_VDDP (power), 49 GND (power)
text: PMU; - MLDO (Linear) +; - DC-DC (Switching); LDO - Digital Core; RF-Analog; RFIO; PORT-A; PORT-B; Master Clear (RESET); XTAL OSC

## MCU_STM32F072C8T6
designator U?, comment STM32F072C8T6
IC MCU 32BIT 64KB FLASH 48LQFP; Manufacturer: STMicroelectronics; Manufacturer Part Number: STM32F072C8T6; Datasheet: https://www.st.com/content/ccc/resource/technical/document/datasheet/cd/46/43/83/22/d3/40/c8/DM00090510.pdf/files/DM00090510.pdf/jcr:content/translations/en.DM00090510.pdf
footprint 48-LQFP (48-LQFP (7x7))
pins: 1 VBAT (power), 2 PC13 (io), 3 PC14-OSC32_IN (io), 4 PC15-OSC32_OUT (io), 5 PF0-OSC_IN (io), 6 PF1-OSC_OUT (io), 7 NRST (io), 8 VSSA (power), 9 VDDA (power), 10 PA0 (io), 11 PA1 (io), 12 PA2 (io), 13 PA3 (io), 14 PA4 (io), 15 PA5 (io), 16 PA6 (io), 17 PA7 (io), 18 PB0 (io), 19 PB1 (io), 20 PB2 (io), 21 PB10 (io), 22 PB11 (io), 23 VSS_1 (power), 24 VDD_1 (power), 25 PB12 (io), 26 PB13 (io), 27 PB14 (io), 28 PB15 (io), 29 PA8 (io), 30 PA9 (io), 31 PA10 (io), 32 PA11 (io), 33 PA12 (io), 34 PA13 (io), 35 VSS_2 (power), 36 VDD_2 (power), 37 PA14 (io), 38 PA15 (io), 39 PB3 (io), 40 PB4 (io), 41 PB5 (io), 42 PB6 (io), 43 PB7 (io), 44 BOOT0 (io), 45 PB8 (io), 46 PB9 (io), 47 VSS_3 (power), 48 VDD_3 (power)

## MCU_STM32F103RCT6
designator U?, comment STM32F103RCT6
IC MCU 32BIT 256KB FLASH 64LQFP; Manufacturer: STMicroelectronics; Manufacturer Part Number: STM32F103RCT6; LCSC Part: C8323
footprint 64-LQFP (64-LQFP (10x10))
pins: 1 VBAT (in), 2 PC13-TAMPER-RTC (io), 3 PC14-OSC32_IN (io), 4 PC15-OSC32_OUT (io), 5 PD0-OSC_IN (in), 6 PD1_OSC_OUT (out), 7 NRST (in), 8 PC0 (io), 9 PC1 (io), 10 PC2 (io), 11 PC3 (io), 12 VSSA (power), 13 VDDA (power), 14 PA0-WKUP (io), 15 PA1 (io), 16 PA2 (io), 17 PA3 (io), 18 VSS_4 (power), 19 VDD_4 (power), 20 PA4 (io), 21 PA5 (io), 22 PA6 (io), 23 PA7 (io), 24 PC4 (io), 25 PC5 (io), 26 PB0 (io), 27 PB1 (io), 28 PB2 (io), 29 PB10 (io), 30 PB11 (io), 31 VSS_1 (power), 32 VDD_1 (power), 33 PB12 (io), 34 PB13 (io), 35 PB14 (io), 36 PB15 (io), 37 PC6 (io), 38 PC7 (io), 39 PC8 (io), 40 PC9 (io), 41 PA8 (io), 42 PA9 (io), 43 PA10 (io), 44 PA11 (io), 45 PA12 (io), 46 PA13 (io), 47 VSS_2 (power), 48 VDD_2 (power), 49 PA14 (io), 50 PA15 (io), 51 PC10 (io), 52 PC11 (io), 53 PC12 (io), 54 PD2 (io), 55 PB3 (io), 56 PB4 (io), 57 PB5 (io), 58 PB6 (io), 59 PB7 (io), 60 BOOT0 (in), 61 PB8 (io), 62 PB9 (io), 63 VSS_3 (power), 64 VDD_3 (power)

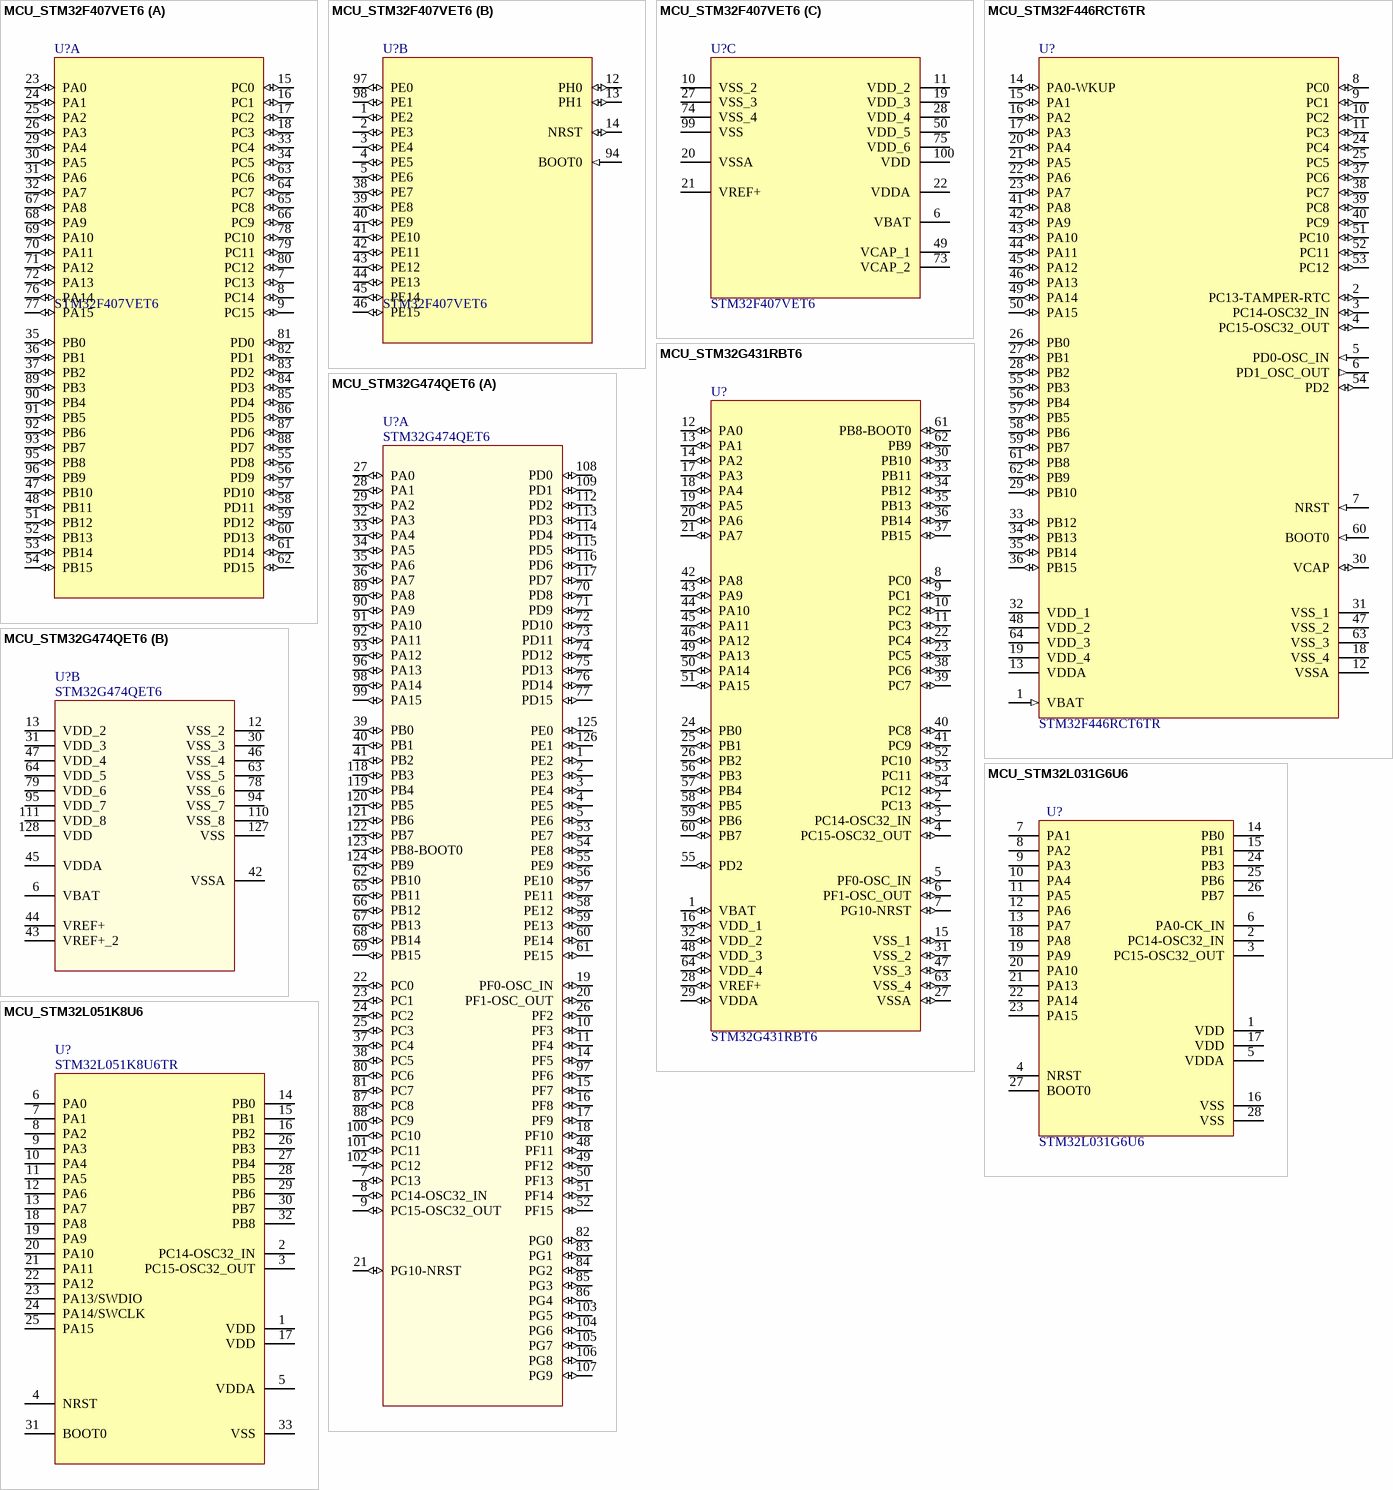
[diagram p11: symbols MCU_STM32F407VET6 to MCU_STM32L051K8U6]

## MCU_STM32F407VET6
designator U?, comment STM32F407VET6
IC MCU 32BIT 512KB FLASH 100LQFP; Manufacturer: STMicroelectronics; Manufacturer Part Number: STM32F407VET6; Datasheet: https://www.st.com/content/ccc/resource/technical/document/datasheet/ef/92/76/6d/bb/c2/4f/f7/DM00037051.pdf/files/DM00037051.pdf/jcr:content/translations/en.DM00037051.pdf
footprint 100-LQFP (100-LQFP (14x14))
part A pins: 7 PC13 (io), 8 PC14 (io), 9 PC15 (io), 15 PC0 (io), 16 PC1 (io), 17 PC2 (io), 18 PC3 (io), 23 PA0 (io), 24 PA1 (io), 25 PA2 (io), 26 PA3 (io), 29 PA4 (io), 30 PA5 (io), 31 PA6 (io), 32 PA7 (io), 33 PC4 (io), 34 PC5 (io), 35 PB0 (io), 36 PB1 (io), 37 PB2 (io), 47 PB10 (io), 48 PB11 (io), 51 PB12 (io), 52 PB13 (io), 53 PB14 (io), 54 PB15 (io), 55 PD8 (io), 56 PD9 (io), 57 PD10 (io), 58 PD11 (io), 59 PD12 (io), 60 PD13 (io), 61 PD14 (io), 62 PD15 (io), 63 PC6 (io), 64 PC7 (io), 65 PC8 (io), 66 PC9 (io), 67 PA8 (io), 68 PA9 (io), 69 PA10 (io), 70 PA11 (io), 71 PA12 (io), 72 PA13 (io), 76 PA14 (io), 77 PA15 (io), 78 PC10 (io), 79 PC11 (io), 80 PC12 (io), 81 PD0 (io), 82 PD1 (io), 83 PD2 (io), 84 PD3 (io), 85 PD4 (io), 86 PD5 (io), 87 PD6 (io), 88 PD7 (io), 89 PB3 (io), 90 PB4 (io), 91 PB5 (io), 92 PB6 (io), 93 PB7 (io), 95 PB8 (io), 96 PB9 (io)
part B pins: 1 PE2 (io), 2 PE3 (io), 3 PE4 (io), 4 PE5 (io), 5 PE6 (io), 12 PH0 (io), 13 PH1 (io), 14 NRST (io), 38 PE7 (io), 39 PE8 (io), 40 PE9 (io), 41 PE10 (io), 42 PE11 (io), 43 PE12 (io), 44 PE13 (io), 45 PE14 (io), 46 PE15 (io), 94 BOOT0 (in), 97 PE0 (io), 98 PE1 (io)
part C pins: 6 VBAT (power), 10 VSS_2 (power), 11 VDD_2 (power), 19 VDD_3 (power), 20 VSSA (power), 21 VREF+ (power), 22 VDDA (power), 27 VSS_3 (power), 28 VDD_4 (power), 49 VCAP_1 (power), 50 VDD_5 (power), 73 VCAP_2 (power), 74 VSS_4 (power), 75 VDD_6 (power), 99 VSS (power), 100 VDD (power)

## MCU_STM32F446RCT6TR
designator U?, comment STM32F446RCT6TR
IC MCU 32BIT 256KB FLASH 64LQFP; Manufacturer: STMicroelectronics; Manufacturer Part Number: STM32F446RCT6TR; LCSC Part: C2969856
footprint 64-LQFP (64-LQFP (10x10))
pins: 1 VBAT (in), 2 PC13-TAMPER-RTC (io), 3 PC14-OSC32_IN (io), 4 PC15-OSC32_OUT (io), 5 PD0-OSC_IN (in), 6 PD1_OSC_OUT (out), 7 NRST (in), 8 PC0 (io), 9 PC1 (io), 10 PC2 (io), 11 PC3 (io), 12 VSSA (power), 13 VDDA (power), 14 PA0-WKUP (io), 15 PA1 (io), 16 PA2 (io), 17 PA3 (io), 18 VSS_4 (power), 19 VDD_4 (power), 20 PA4 (io), 21 PA5 (io), 22 PA6 (io), 23 PA7 (io), 24 PC4 (io), 25 PC5 (io), 26 PB0 (io), 27 PB1 (io), 28 PB2 (io), 29 PB10 (io), 30 VCAP (io), 31 VSS_1 (power), 32 VDD_1 (power), 33 PB12 (io), 34 PB13 (io), 35 PB14 (io), 36 PB15 (io), 37 PC6 (io), 38 PC7 (io), 39 PC8 (io), 40 PC9 (io), 41 PA8 (io), 42 PA9 (io), 43 PA10 (io), 44 PA11 (io), 45 PA12 (io), 46 PA13 (io), 47 VSS_2 (power), 48 VDD_2 (power), 49 PA14 (io), 50 PA15 (io), 51 PC10 (io), 52 PC11 (io), 53 PC12 (io), 54 PD2 (io), 55 PB3 (io), 56 PB4 (io), 57 PB5 (io), 58 PB6 (io), 59 PB7 (io), 60 BOOT0 (in), 61 PB8 (io), 62 PB9 (io), 63 VSS_3 (power), 64 VDD_3 (power)

## MCU_STM32G431RBT6
designator U?, comment STM32G431RBT6
IC MCU 32BIT 128KB FLASH 64LQFP; Manufacturer: STMicroelectronics; Datasheet: https://www.st.com/resource/en/datasheet/stm32g431cb.pdf; Manufacturer Part Number: STM32G431RBT6
footprint 64-LQFP (64-LQFP (10x10))
pins: 1 VBAT (io), 2 PC13 (io), 3 PC14-OSC32_IN (io), 4 PC15-OSC32_OUT (io), 5 PF0-OSC_IN (io), 6 PF1-OSC_OUT (io), 7 PG10-NRST (io), 8 PC0 (io), 9 PC1 (io), 10 PC2 (io), 11 PC3 (io), 12 PA0 (io), 13 PA1 (io), 14 PA2 (io), 15 VSS_1 (io), 16 VDD_1 (io), 17 PA3 (io), 18 PA4 (io), 19 PA5 (io), 20 PA6 (io), 21 PA7 (io), 22 PC4 (io), 23 PC5 (io), 24 PB0 (io), 25 PB1 (io), 26 PB2 (io), 27 VSSA (io), 28 VREF+ (io), 29 VDDA (io), 30 PB10 (io), 31 VSS_2 (io), 32 VDD_2 (io), 33 PB11 (io), 34 PB12 (io), 35 PB13 (io), 36 PB14 (io), 37 PB15 (io), 38 PC6 (io), 39 PC7 (io), 40 PC8 (io), 41 PC9 (io), 42 PA8 (io), 43 PA9 (io), 44 PA10 (io), 45 PA11 (io), 46 PA12 (io), 47 VSS_3 (io), 48 VDD_3 (io), 49 PA13 (io), 50 PA14 (io), 51 PA15 (io), 52 PC10 (io), 53 PC11 (io), 54 PC12 (io), 55 PD2 (io), 56 PB3 (io), 57 PB4 (io), 58 PB5 (io), 59 PB6 (io), 60 PB7 (io), 61 PB8-BOOT0 (io), 62 PB9 (io), 63 VSS_4 (io), 64 VDD_4 (io)

## MCU_STM32G474QET6
designator U?, comment STM32G474QET6
IC MCU 32BIT 512KB FLASH 128LQFP; Manufacturer: STMicroelectronics; Manufacturer Part Number: STM32G474QET6
footprint 128-LQFP (Footprint not found)
part A pins: 1 PE2 (io), 2 PE3 (io), 3 PE4 (io), 4 PE5 (io), 5 PE6 (io), 7 PC13 (io), 8 PC14-OSC32_IN (io), 9 PC15-OSC32_OUT (io), 10 PF3 (io), 11 PF4 (io), 14 PF5 (io), 15 PF7 (io), 16 PF8 (io), 17 PF9 (io), 18 PF10 (io), 19 PF0-OSC_IN (io), 20 PF1-OSC_OUT (io), 21 PG10-NRST (io), 22 PC0 (io), 23 PC1 (io), 24 PC2 (io), 25 PC3 (io), 26 PF2 (io), 27 PA0 (io), 28 PA1 (io), 29 PA2 (io), 32 PA3 (io), 33 PA4 (io), 34 PA5 (io), 35 PA6 (io), 36 PA7 (io), 37 PC4 (io), 38 PC5 (io), 39 PB0 (io), 40 PB1 (io), 41 PB2 (io), 48 PF11 (io), 49 PF12 (io), 50 PF13 (io), 51 PF14 (io), 52 PF15 (io), 53 PE7 (io), 54 PE8 (io), 55 PE9 (io), 56 PE10 (io), 57 PE11 (io), 58 PE12 (io), 59 PE13 (io), 60 PE14 (io), 61 PE15 (io), 62 PB10 (io), 65 PB11 (io), 66 PB12 (io), 67 PB13 (io), 68 PB14 (io), 69 PB15 (io), 70 PD8 (io), 71 PD9 (io), 72 PD10 (io), 73 PD11 (io), 74 PD12 (io), 75 PD13 (io), 76 PD14 (io), 77 PD15 (io), 80 PC6 (io), 81 PC7 (io), 82 PG0 (io), 83 PG1 (io), 84 PG2 (io), 85 PG3 (io), 86 PG4 (io), 87 PC8 (io), 88 PC9 (io), 89 PA8 (io), 90 PA9 (io), 91 PA10 (io), 92 PA11 (io), 93 PA12 (io), 96 PA13 (io), 97 PF6 (io), 98 PA14 (io), 99 PA15 (io), 100 PC10 (io), 101 PC11 (io), 102 PC12 (io), 103 PG5 (io), 104 PG6 (io), 105 PG7 (io), 106 PG8 (io), 107 PG9 (io), 108 PD0 (io), 109 PD1 (io), 112 PD2 (io), 113 PD3 (io), 114 PD4 (io), 115 PD5 (io), 116 PD6 (io), 117 PD7 (io), 118 PB3 (io), 119 PB4 (io), 120 PB5 (io), 121 PB6 (io), 122 PB7 (io), 123 PB8-BOOT0 (io), 124 PB9 (io), 125 PE0 (io), 126 PE1 (io)
part B pins: 6 VBAT (power), 12 VSS_2 (power), 13 VDD_2 (power), 30 VSS_3 (power), 31 VDD_3 (power), 42 VSSA (power), 43 VREF+_2 (power), 44 VREF+ (power), 45 VDDA (power), 46 VSS_4 (power), 47 VDD_4 (power), 63 VSS_5 (power), 64 VDD_5 (power), 78 VSS_6 (power), 79 VDD_6 (power), 94 VSS_7 (power), 95 VDD_7 (power), 110 VSS_8 (power), 111 VDD_8 (power), 127 VSS (power), 128 VDD (power)

## MCU_STM32L031G6U6
designator U?, comment STM32L031G6U6
IC MCU 32BIT 32KB FLASH 28UFQFPN; Manufacturer: STMicroelectronics; Manufacturer Part Number: STM32L031G6U6
footprint 28-UFQFPN (4x4) (Footprint not found)
pins: 1 VDD, 2 PC14-OSC32_IN, 3 PC15-OSC32_OUT, 4 NRST, 5 VDDA, 6 PA0-CK_IN, 7 PA1, 8 PA2, 9 PA3, 10 PA4, 11 PA5, 12 PA6, 13 PA7, 14 PB0, 15 PB1, 16 VSS, 17 VDD, 18 PA8, 19 PA9, 20 PA10, 21 PA13, 22 PA14, 23 PA15, 24 PB3, 25 PB6, 26 PB7, 27 BOOT0, 28 VSS

## MCU_STM32L051K8U6
designator U?, comment STM32L051K8U6TR
IC MCU 32BIT 64KB FLASH 32UFQFPN; Manufacturer: STMicroelectronics; Manufacturer Part Number: STM32L051K8U6TR; LCSC Part: C516778
footprint 32-VFQFN Exposed Pad (32-HVQFN (5x5))
pins: 1 VDD, 2 PC14-OSC32_IN, 3 PC15-OSC32_OUT, 4 NRST, 5 VDDA, 6 PA0, 7 PA1, 8 PA2, 9 PA3, 10 PA4, 11 PA5, 12 PA6, 13 PA7, 14 PB0, 15 PB1, 16 PB2, 17 VDD, 18 PA8, 19 PA9, 20 PA10, 21 PA11, 22 PA12, 23 PA13/SWDIO, 24 PA14/SWCLK, 25 PA15, 26 PB3, 27 PB4, 28 PB5, 29 PB6, 30 PB7, 31 BOOT0, 32 PB8, 33 VSS

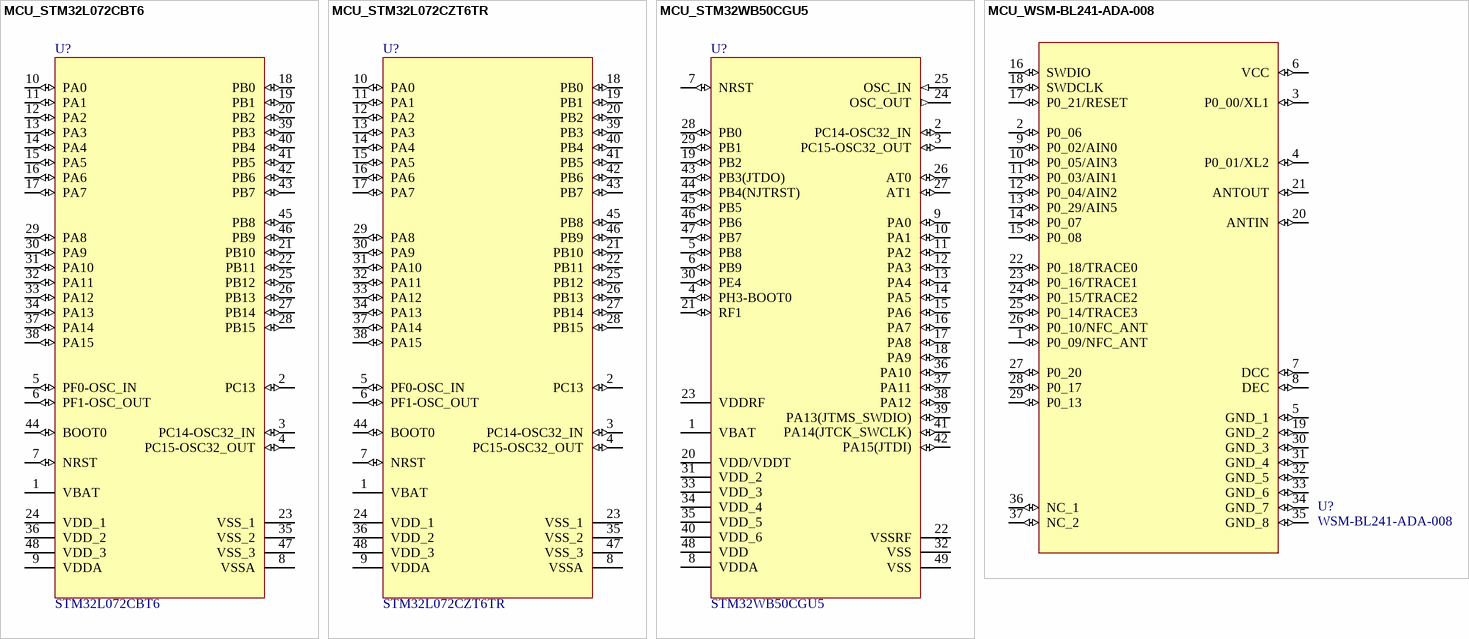
[diagram p12: symbols MCU_STM32L072CBT6 to MCU_WSM-BL241-ADA-008]

## MCU_STM32L072CBT6
designator U?, comment STM32L072CBT6
IC MCU 32BIT 128KB FLASH 48LQFP; Manufacturer: STMicroelectronics; Manufacturer Part Number: STM32L072CBT6; Datasheet: https://www.st.com/resource/en/datasheet/stm32l072cz.pdf; LCSC Part: C465977
footprint 48-LQFP (48-LQFP (7x7))
pins: 1 VBAT (power), 2 PC13 (io), 3 PC14-OSC32_IN (io), 4 PC15-OSC32_OUT (io), 5 PF0-OSC_IN (io), 6 PF1-OSC_OUT (io), 7 NRST (io), 8 VSSA (power), 9 VDDA (power), 10 PA0 (io), 11 PA1 (io), 12 PA2 (io), 13 PA3 (io), 14 PA4 (io), 15 PA5 (io), 16 PA6 (io), 17 PA7 (io), 18 PB0 (io), 19 PB1 (io), 20 PB2 (io), 21 PB10 (io), 22 PB11 (io), 23 VSS_1 (power), 24 VDD_1 (power), 25 PB12 (io), 26 PB13 (io), 27 PB14 (io), 28 PB15 (io), 29 PA8 (io), 30 PA9 (io), 31 PA10 (io), 32 PA11 (io), 33 PA12 (io), 34 PA13 (io), 35 VSS_2 (power), 36 VDD_2 (power), 37 PA14 (io), 38 PA15 (io), 39 PB3 (io), 40 PB4 (io), 41 PB5 (io), 42 PB6 (io), 43 PB7 (io), 44 BOOT0 (io), 45 PB8 (io), 46 PB9 (io), 47 VSS_3 (power), 48 VDD_3 (power)

## MCU_STM32L072CZT6TR
designator U?, comment STM32L072CZT6TR
IC MCU 32BIT 192KB FLASH 48LQFP; Manufacturer: STMicroelectronics; Manufacturer Part Number: STM32L072CZT6TR; Datasheet: https://www.st.com/resource/en/datasheet/stm32l072cz.pdf; LCSC Part: C1852754
footprint 48-LQFP (48-LQFP (7x7))
pins: 1 VBAT (power), 2 PC13 (io), 3 PC14-OSC32_IN (io), 4 PC15-OSC32_OUT (io), 5 PF0-OSC_IN (io), 6 PF1-OSC_OUT (io), 7 NRST (io), 8 VSSA (power), 9 VDDA (power), 10 PA0 (io), 11 PA1 (io), 12 PA2 (io), 13 PA3 (io), 14 PA4 (io), 15 PA5 (io), 16 PA6 (io), 17 PA7 (io), 18 PB0 (io), 19 PB1 (io), 20 PB2 (io), 21 PB10 (io), 22 PB11 (io), 23 VSS_1 (power), 24 VDD_1 (power), 25 PB12 (io), 26 PB13 (io), 27 PB14 (io), 28 PB15 (io), 29 PA8 (io), 30 PA9 (io), 31 PA10 (io), 32 PA11 (io), 33 PA12 (io), 34 PA13 (io), 35 VSS_2 (power), 36 VDD_2 (power), 37 PA14 (io), 38 PA15 (io), 39 PB3 (io), 40 PB4 (io), 41 PB5 (io), 42 PB6 (io), 43 PB7 (io), 44 BOOT0 (io), 45 PB8 (io), 46 PB9 (io), 47 VSS_3 (power), 48 VDD_3 (power)

## MCU_STM32WB50CGU5
designator U?, comment STM32WB50CGU5
IC MCU RF 32BIT 1MB FLASH 48UFQFN; Manufacturer: STMicroelectronics; Datasheet: https://www.st.com/resource/en/datasheet/stm32wb50cg.pdf; Manufacturer Part Number: STM32WB50CGU5
footprint 48-UFQFN (48-UFQFN Exposed Pad)
pins: 1 VBAT (power), 2 PC14-OSC32_IN (io), 3 PC15-OSC32_OUT (io), 4 PH3-BOOT0 (io), 5 PB8 (io), 6 PB9 (io), 7 NRST (io), 8 VDDA (power), 9 PA0 (io), 10 PA1 (io), 11 PA2 (io), 12 PA3 (io), 13 PA4 (io), 14 PA5 (io), 15 PA6 (io), 16 PA7 (io), 17 PA8 (io), 18 PA9 (io), 19 PB2 (io), 20 VDD/VDDT (power), 21 RF1 (io), 22 VSSRF (power), 23 VDDRF (power), 24 OSC_OUT (out), 25 OSC_IN (in), 26 AT0 (io), 27 AT1 (io), 28 PB0 (io), 29 PB1 (io), 30 PE4 (io), 31 VDD_2 (power), 32 VSS (power), 33 VDD_3 (power), 34 VDD_4 (power), 35 VDD_5 (power), 36 PA10 (io), 37 PA11 (io), 38 PA12 (io), 39 PA13(JTMS_SWDIO) (io), 40 VDD_6 (power), 41 PA14(JTCK_SWCLK) (io), 42 PA15(JTDI) (io), 43 PB3(JTDO) (io), 44 PB4(NJTRST) (io), 45 PB5 (io), 46 PB6 (io), 47 PB7 (io), 48 VDD (power), 49 VSS

## MCU_WSM-BL241-ADA-008
designator U?, comment WSM-BL241-ADA-008
RF TXRX MOD BT TH SMD; Manufacturer: Murata Electronics; Manufacturer Part Number: WSM-BL241-ADA-008; LCSC Part: C914201
footprint MBN52832
pins: 1 P0_09/NFC_ANT (io), 2 P0_06 (io), 3 P0_00/XL1 (io), 4 P0_01/XL2 (io), 5 GND_1 (io), 6 VCC (io), 7 DCC (io), 8 DEC (io), 9 P0_02/AIN0 (io), 10 P0_05/AIN3 (io), 11 P0_03/AIN1 (io), 12 P0_04/AIN2 (io), 13 P0_29/AIN5 (io), 14 P0_07 (io), 15 P0_08 (io), 16 SWDIO (io), 17 P0_21/RESET (io), 18 SWDCLK (io), 19 GND_2 (io), 20 ANTIN (io), 21 ANTOUT (io), 22 P0_18/TRACE0 (io), 23 P0_16/TRACE1 (io), 24 P0_15/TRACE2 (io), 25 P0_14/TRACE3 (io), 26 P0_10/NFC_ANT (io), 27 P0_20 (io), 28 P0_17 (io), 29 P0_13 (io), 30 GND_3 (io), 31 GND_4 (io), 32 GND_5 (io), 33 GND_6 (io), 34 GND_7 (io), 35 GND_8 (io), 36 NC_1 (io), 37 NC_2 (io)

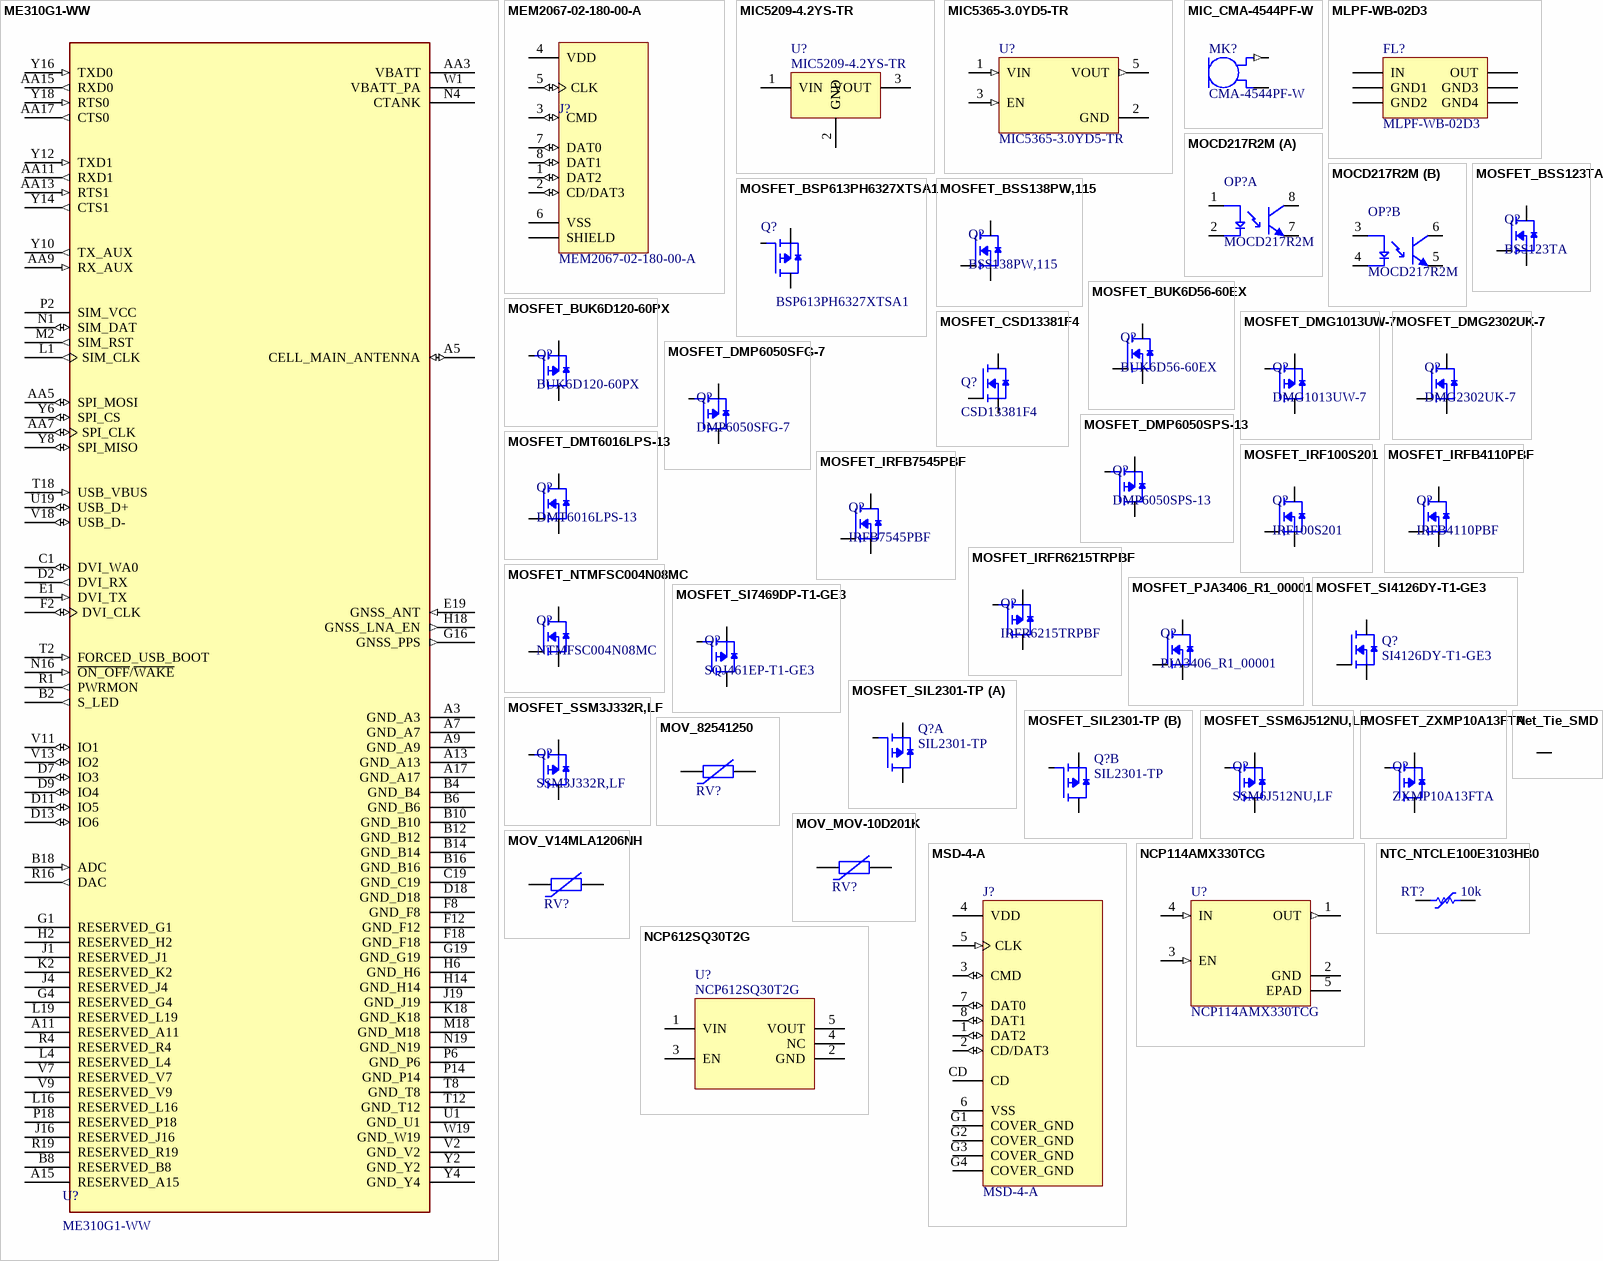
[diagram p13: symbols ME310G1-WW to NTC_NTCLE100E3103HB0]

## ME310G1-WW
designator U?
LTE-M NB-IoT module Global variant; Manufacturer: Telit; Manufacturer Part Number: ME310G1-WW
footprint XCVR_ME310G1-WW_HW_1.0
pins: A3 GND_A3 (power), A5 CELL_MAIN_ANTENNA (io), A7 GND_A7 (power), A9 GND_A9 (power), A11 RESERVED_A11, A13 GND_A13 (power), A15 RESERVED_A15, A17 GND_A17 (power), AA3 VBATT (power), AA5 SPI_MOSI (io), AA7 SPI_CLK (io), AA9 RX_AUX (in), AA11 RXD1 (out), AA13 RTS1 (in), AA15 RXD0 (out), AA17 CTS0 (out), B2 S_LED (out), B4 GND_B4 (power), B6 GND_B6 (power), B8 RESERVED_B8, B10 GND_B10 (power), B12 GND_B12 (power), B14 GND_B14 (power), B16 GND_B16 (power), B18 ADC (in), C1 DVI_WA0 (io), C19 GND_C19 (power), D2 DVI_RX (out), D7 IO3 (io), D9 IO4 (io), D11 IO5 (io), D13 IO6 (io), D18 GND_D18 (power), E1 DVI_TX (in), E19 GNSS_ANT (in), F2 DVI_CLK (io), F8 GND_F8 (power), F12 GND_F12 (power), F18 GND_F18 (power), G1 RESERVED_G1, G4 RESERVED_G4, G16 GNSS_PPS (out), G19 GND_G19 (power), H2 RESERVED_H2, H6 GND_H6 (power), H14 GND_H14 (power), H18 GNSS_LNA_EN (out), J1 RESERVED_J1, J4 RESERVED_J4, J16 RESERVED_J16, J19 GND_J19 (power), K2 RESERVED_K2, K18 GND_K18 (power), L1 SIM_CLK (out), L4 RESERVED_L4, L16 RESERVED_L16, L19 RESERVED_L19, M2 SIM_RST (out), M18 GND_M18 (power), N1 SIM_DAT (io), N4 CTANK, N16 ~{ON_OFF}/~{WAKE} (in), N19 GND_N19 (power), P2 SIM_VCC (power), P6 GND_P6 (power), P14 GND_P14 (power), P18 RESERVED_P18, R1 PWRMON (out), R4 RESERVED_R4, R16 DAC (out), R19 RESERVED_R19, T2 FORCED_USB_BOOT (in), T8 GND_T8 (power), T12 GND_T12 (power), T18 USB_VBUS (in), U1 GND_U1 (power), U19 USB_D+ (io), V2 GND_V2 (power), V7 RESERVED_V7, V9 RESERVED_V9, V11 IO1 (io), V13 IO2 (io), V18 USB_D- (io), W1 VBATT_PA (power), W19 GND_W19 (power), Y2 GND_Y2 (power), Y4 GND_Y4 (power), Y6 SPI_CS (io), Y8 SPI_MISO (io), Y10 TX_AUX (out), Y12 TXD1 (in), Y14 CTS1 (out), Y16 TXD0 (in), Y18 RTS0 (in)

## MEM2067-02-180-00-A
designator J?
MICRO SD HINGED, SMT, 1.80MM PRO; Manufacturer: GCT; Manufacturer Part Number: MEM2067-02-180-00-A
footprint GCT_MEM2067-02-180-00-A_REVB (Footprint not found)
pins: 1 DAT2 (io), 2 CD/DAT3 (io), 3 CMD (io), 4 VDD (power), 5 CLK (io), 6 VSS (power), 7 DAT0 (io), 8 DAT1 (io), 9 SHIELD, 10 SHIELD, 11 SHIELD, 12 SHIELD

## MIC5209-4.2YS-TR
designator U?
IC REG LIN 4.2V 500MA SOT-223-3; Manufacturer: Microchip Technology; Manufacturer Part Number: MIC5209-4.2YS-TR; LCSC Part: C638643
footprint SOT-223 (TO-261-4, TO-261AA)
pins: 1 VIN, 2 GND, 3 VOUT, 4 GND

## MIC5365-3.0YD5-TR
designator U?
IC REG LINEAR 3V 150MA TSOT23-5; Manufacturer: Microchip Technology; Manufacturer Part Number: MIC5365-3.0YD5-TR; LCSC Part: C626097
footprint TSOT-23-5 (SOT-23-5 Thin, TSOT-23-5)
pins: 1 VIN (in), 2 GND (power), 3 EN (in), 5 VOUT (out)

## MIC_CMA-4544PF-W
designator MK?, comment CMA-4544PF-W
MIC COND ANLG OMNI -44DB 0.382"D; Manufacturer: Same Sky; Manufacturer Part Number: CMA-4544PF-W; LCSC Part: C22359702
footprint MIC_CMA-4544PF-W
pins: 1 OUT (out), 2 GND (power)

## MLPF-WB-02D3
designator FL?
2.4 GHZ LOW PASS FILTER MATCHED; Manufacturer: STMicroelectronics; Manufacturer Part Number: MLPF-WB-02D3; Datasheet: https://www.st.com/resource/en/datasheet/mlpf-wb-02d3.pdf
footprint MLPFWB02D3
pins: A1 OUT, A2 GND4, A3 IN, B1 GND3, B2 GND2, B3 GND1

## MOCD217R2M
designator OP?
OPTOISO 2.5KV 2CH TRANS 8SOIC; Manufacturer: onsemi; Manufacturer Part Number: MOCD217R2M; LCSC Part: C14315
footprint SOIC-8 (0.154", 3.90mm Width)
part A pins: 1 A, 2 C, 7 ET, 8 CT
part B pins: 3 A, 4 C, 5 ET, 6 CT

## MOSFET_BSP613PH6327XTSA1
designator Q?, comment BSP613PH6327XTSA1
MOSFET P-CH 60V 2.9A SOT223-4; Manufacturer: Infineon Technologies; Manufacturer Part Number: BSP613PH6327XTSA1; LCSC Part: C534578
footprint SOT-223-4 (SOT223, 4-Leads, Body 6.50x7.00mm (avg), Pitch 2.30mm)
pins: 1 G, 2 D, 3 S, 4 D

## MOSFET_BSS123TA
designator Q?, comment BSS123TA
MOSFET N-CH 100V 170MA SOT23-3; Manufacturer: Diodes Incorporated; Current - Continuous Drain (Id) @ 25°C: 170mA(Ta); Manufacturer Part Number: BSS123TA; Drain to Source Voltage (Vdss): 100V; LCSC Part: C435875
footprint SOT-23-3 (TO-236-3, SC-59, SOT-23-3)
pins: 1 G, 2 S, 3 D

## MOSFET_BSS138PW,115
designator Q?, comment BSS138PW,115
MOSFET N-CH 60V 320MA SOT323; Manufacturer: Nexperia USA Inc.; Current - Continuous Drain (Id) @ 25°C: 320mA (Ta); Manufacturer Part Number: BSS138PW,115; Drain to Source Voltage (Vdss): 60 V; LCSC Part: C193366
footprint SOT-323 (SC-70, SOT-323)
pins: 1 G, 2 S, 3 D

## MOSFET_BUK6D56-60EX
designator Q?, comment BUK6D56-60EX
MOSFET N-CH 60V 4A/11A 6DFN; Manufacturer: Nexperia USA Inc.; Current - Continuous Drain (Id) @ 25°C: 4A (Ta), 11A (Tc); Manufacturer Part Number: BUK6D56-60EX; Drain to Source Voltage (Vdss): 60 V; Datasheet: https://assets.nexperia.com/documents/data-sheet/BUK6D56-60E.pdf
footprint 6-UDFN (DFN2020MD-6)
pins: 1 D, 2 D, 3 G, 4 S, 5 D, 6 D, 7 D, 8 S

## MOSFET_BUK6D120-60PX
designator Q?, comment BUK6D120-60PX
MOSFET P-CH 60V 3A/8A 6DFN; Manufacturer: Nexperia USA Inc.; Drain to Source Voltage (Vdss): 3A (Ta), 8A (Tc); Manufacturer Part Number: BUK6D120-60PX; Drain to Source Voltage (Vdss): 60V
footprint 6-UDFN (DFN2020MD-6)
pins: 1 D, 2 D, 3 G, 4 S, 5 D, 6 D, 7 D, 8 S

## MOSFET_CSD13381F4
designator Q?, comment CSD13381F4
MOSFET N-CH 12V 2.1A 3PICOSTAR; Manufacturer: Texas Instruments; Drain to Source Voltage (Vdss): 2.1A (Ta); Manufacturer Part Number: CSD13381F4; Drain to Source Voltage (Vdss): 12 V; LCSC Part: C179868
footprint 3-PICOSTAR (3-XFDFN)
pins: 1 G, 2 S, 3 D

## MOSFET_DMG1013UW-7
designator Q?, comment DMG1013UW-7
MOSFET P-CH 20V 820MA SOT323; Manufacturer: Diodes Incorporated; Drain to Source Voltage (Vdss): 820mA (Ta); Manufacturer Part Number: DMG1013UW-7; Drain to Source Voltage (Vdss): 20 V; LCSC Part: C211434
footprint SOT-323 (SC-70, SOT-323)
pins: 1 G, 2 S, 3 D

## MOSFET_DMG2302UK-7
designator Q?, comment DMG2302UK-7
MOSFET N-CH 20V 2.8A SOT23; Manufacturer: Diodes Incorporated; Current - Continuous Drain (Id) @ 25°C: 2.8A (Ta); Manufacturer Part Number: DMG2302UK-7; Drain to Source Voltage (Vdss): 20V; LCSC Part: C460977
footprint SOT-23 (TO-236AB)
pins: 1 G, 2 S, 3 D

## MOSFET_DMP6050SFG-7
designator Q?, comment DMP6050SFG-7
MOSFET P-CH 60V 4.8A PWRDI3333-8; Manufacturer: Diodes Incorporated; Drain to Source Voltage (Vdss): 4.8A (Ta); Manufacturer Part Number: DMP6050SFG-7; Drain to Source Voltage (Vdss): 60 V; LCSC Part: C3279391
footprint 8-PowerVDFN (POWERDI3333-8)
pins: 1 S, 2 S, 3 S, 4 G, 5_6_7_8 D

## MOSFET_DMP6050SPS-13
designator Q?, comment DMP6050SPS-13
MOSFET P-CH 60V 5.7A PWRDI5060-8; Manufacturer: Diodes Incorporated; Drain to Source Voltage (Vdss): 5.7A (Ta); Manufacturer Part Number: DMP6050SPS-13; Drain to Source Voltage (Vdss): 60 V; LCSC Part: C3279412
footprint 8-PowerTDFN (PowerDI5060-8)
pins: 1 S, 2 S, 3 S, 4 G, 5_6_7_8 D

## MOSFET_DMT6016LPS-13
designator Q?, comment DMT6016LPS-13  (mechanical)
MOSFET N-CH 60V 10.6A PWRDI5060; Manufacturer: Diodes Incorporated; Current - Continuous Drain (Id) @ 25°C: 10.6A (Ta); Manufacturer Part Number: DMT6016LPS-13; Drain to Source Voltage (Vdss): 60 V; LCSC Part: C460055
footprint 8-PowerTDFN (PowerDI5060-8)
pins: 1 S, 2 S, 3 S, 4 G, 5_6_7_8 D

## MOSFET_IRF100S201
designator Q?, comment IRF100S201
MOSFET N-CH 100V 192A D2PAK; Manufacturer: Infineon Technologies; Drain to Source Voltage (Vdss): 100; Current - Continuous Drain (Id) @ 25°C: 192A (Tc); Manufacturer Part Number: IRF100S201; LCSC Part: C459928
footprint PG-TO263-3 (TO-263-3, D2PAK (2 Leads + Tab), TO-263AB)
pins: 1 G, 2 D, 3 S

## MOSFET_IRFB4110PBF
designator Q?, comment IRFB4110PBF
MOSFET N-CH 100V 120A TO220AB; Manufacturer: Infineon Technologies; Current - Continuous Drain (Id) @ 25°C: 120A (Tc); Manufacturer Part Number: IRFB4110PBF; Drain to Source Voltage (Vdss): 100V; LCSC Part: C2650
footprint TO-220-3 (TO-220AB)
pins: 1 G, 2 D, 3 S

## MOSFET_IRFB7545PBF
designator Q?, comment IRFB7545PBF
MOSFET N-CH 60V 95A TO220; Manufacturer: Infineon Technologies; Current - Continuous Drain (Id) @ 25°C: 95A (Tc); Manufacturer Part Number: IRFB7545PBF; Drain to Source Voltage (Vdss): 60V; LCSC Part: C2997913
footprint TO-220-3 (TO-220AB)
pins: 1 G, 2 D, 3 S

## MOSFET_IRFR6215TRPBF
designator Q?, comment IRFR6215TRPBF
MOSFET P-CH 150V 13A DPAK; Manufacturer: Infineon Technologies; Drain to Source Voltage (Vdss): 13A (Tc); Manufacturer Part Number: IRFR6215TRPBF; Drain to Source Voltage (Vdss): 150V; LCSC Part: C150936
footprint TO-252AA (TO-252-3, DPAK (2 Leads + Tab), SC-63)
pins: 1 G, 2 D, 3 S

## MOSFET_NTMFSC004N08MC
designator Q?, comment NTMFSC004N08MC
MOSFET N-CH 80V 86A/136A 8DFN; Manufacturer: onsemi; Current - Continuous Drain (Id) @ 25°C: 86A(Ta) 136(Tc); Manufacturer Part Number: NTMFSC004N08MC; Drain to Source Voltage (Vdss): 80 V; Datasheet: https://www.onsemi.com/pdf/datasheet/ntmfsc004n08mc-d.pdf
footprint 8-DFN (5x6.15) (8-PowerVDFN)
pins: 1 S, 2 S, 3 S, 4 G, 5 D, 6 D, 7 D, 8 D

## MOSFET_PJA3406_R1_00001
designator Q?, comment PJA3406_R1_00001
MOSFET N-CH 30V 4.4A SOT23-3; Manufacturer: Panjit International Inc.; Current - Continuous Drain (Id) @ 25°C: 4.4A (Ta); Manufacturer Part Number: PJA3406_R1_00001; Drain to Source Voltage (Vdss): 30V
footprint SOT-23-3 (TO-236-3, SC-59, SOT-23-3)
pins: 1 G, 2 S, 3 D

## MOSFET_SI4126DY-T1-GE3
designator Q?, comment SI4126DY-T1-GE3  (mechanical)
MOSFET N-CH 30V 39A 8-SOIC; Manufacturer: Vishay Siliconix; Current - Continuous Drain (Id) @ 25°C: 39A (Tc); Manufacturer Part Number: SI4126DY-T1-GE3; Drain to Source Voltage (Vdss): 30 V; LCSC Part: C143747
footprint SOIC-8 (0.154", 3.90mm Width)
pins: 1 S, 2 S, 3 S, 4 G, 5 D, 6 D, 7 D, 8 D

## MOSFET_SI7469DP-T1-GE3
designator Q?, comment SQJ461EP-T1-GE3
MOSFET P-CH 80V 28A PPAK SO-8; Manufacturer: Vishay Siliconix; Drain to Source Voltage (Vdss): 28A(Tc); Manufacturer Part Number: SQJ461EP-T1-GE3; Drain to Source Voltage (Vdss): 80V
footprint PowerPAK SO-8
pins: 1 S, 2 S, 3 S, 4 G, 5 D, 6 D, 7 D, 8 D, 9 D

## MOSFET_SIL2301-TP
designator Q?, comment SIL2301-TP
MOSFET P-CH 20V 2.3A SOT23-6L PACKA; Manufacturer: Micro Commercial Co; Manufacturer Part Number: SIL2301-TP; Drain to Source Voltage (Vdss): 20V; Drain to Source Voltage (Vdss): 2.3 A
footprint SOT-23-6
part A pins: 1 G, 5 S, 6 D
part B pins: 2 S, 3 G, 4 D

## MOSFET_SSM3J332R,LF
designator Q?, comment SSM3J332R,LF
MOSFET P-CH 30V 6A SOT23F; Manufacturer: Toshiba Semiconductor and Storage; Drain to Source Voltage (Vdss): 6A (Ta); Manufacturer Part Number: SSM3J332R,LF; Drain to Source Voltage (Vdss): 30 V; LCSC Part: C146367
footprint SOT-23F (SOT-23-3 Flat Leads)
pins: 1 G, 2 S, 3 D

## MOSFET_SSM6J512NU,LF
designator Q?, comment SSM6J512NU,LF
MOSFET P-CH 12V 10A 6UDFNB; Manufacturer: Toshiba Semiconductor and Storage; Manufacturer Part Number: SSM6J512NU,LF; LCSC Part: C7320745
footprint 6-UDFNB (6-WDFN Exposed Pad)
pins: 1 D, 2 D, 3 G, 4 S, 5 D, 6 D, 7 D, 8 S

## MOSFET_ZXMP10A13FTA
designator Q?, comment ZXMP10A13FTA
MOSFET P-CH 100V 600MA SOT23-3; Manufacturer: Diodes Incorporated; Drain to Source Voltage (Vdss): 600mA (Ta); Manufacturer Part Number: ZXMP10A13FTA; Drain to Source Voltage (Vdss): 100 V; LCSC Part: C50185
footprint SOT-23-3 (TO-236-3, SC-59, SOT-23-3)
pins: 1 G, 2 S, 3 D

## MOV_82541250
designator RV?, comment 82541250  (value not drawn)
VARISTOR 39V 200A 1206; Manufacturer: Wurth Elektronik; Maximum AC Volts: 25V; Maximum DC Volts: 30V; Manufacturer Part Number: 82541250; Varistor Voltage (Typ): 39V; Current - Surge: 200A
footprint MOV_1206 (SMD Varistor, 2-Leads, body 3.20x1.60mm)
pins: 1, 2

## MOV_MOV-10D201K
designator RV?, comment MOV-10D201K  (value not drawn)
VARISTOR 200V 2.5KA DISC 10MM; Manufacturer: Bourns Inc.; Manufacturer Part Number: MOV-10D201K
footprint DISC-10 (Disc 10mm)
pins: 1, 2

## MOV_V14MLA1206NH
designator RV?, comment V14MLA1206NH  (value not drawn)
VARISTOR 18.1V 150A 1206; Manufacturer: Littelfuse Inc.; Maximum AC Volts: 10V; Maximum DC Volts: 14V; Manufacturer Part Number: V14MLA1206NH; Varistor Voltage (Typ): 18.1V; Current - Surge: 150A
footprint MOV_1206 (SMD Varistor, 2-Leads, body 3.20x1.60mm)
pins: 1, 2

## MSD-4-A
designator J?
MICRO SD CARD CONNECTOR, 9 POSIT; Manufacturer: CUI Devices; Manufacturer Part Number: MSD-4-A
footprint CUI_MSD-4-A
pins: 1 DAT2 (io), 2 CD/DAT3 (io), 3 CMD (io), 4 VDD (power), 5 CLK (in), 6 VSS (power), 7 DAT0 (io), 8 DAT1 (io), CD, G1 COVER_GND (power), G2 COVER_GND (power), G3 COVER_GND (power), G4 COVER_GND (power)

## NCP114AMX330TCG
designator U?
IC REG LINEAR 3.3V 300MA 4UDFN; Manufacturer: ON Semiconductor; Manufacturer Part Number: NCP114AMX330TCG; LCSC Part: C133056
footprint 4-UDFN Exposed Pad (4-UDFN (1.0x1.0))
pins: 1 OUT (out), 2 GND (power), 3 EN (in), 4 IN (in), 5 EPAD

## NCP612SQ30T2G
designator U?
IC REG LINEAR 3V 100MA SC88A; Manufacturer: ON Semiconductor; Manufacturer Part Number: NCP612SQ30T2G; LCSC Part: C463355
footprint SC-70-5 (Footprint not found)
pins: 1 VIN, 2 GND, 3 EN, 4 NC, 5 VOUT